# Altium schematic symbol library 74xxTTL.SCHLIB: 343 symbols (part 1 of 3)
Pins are listed as number, name and electrical type; pins without a type are passive.

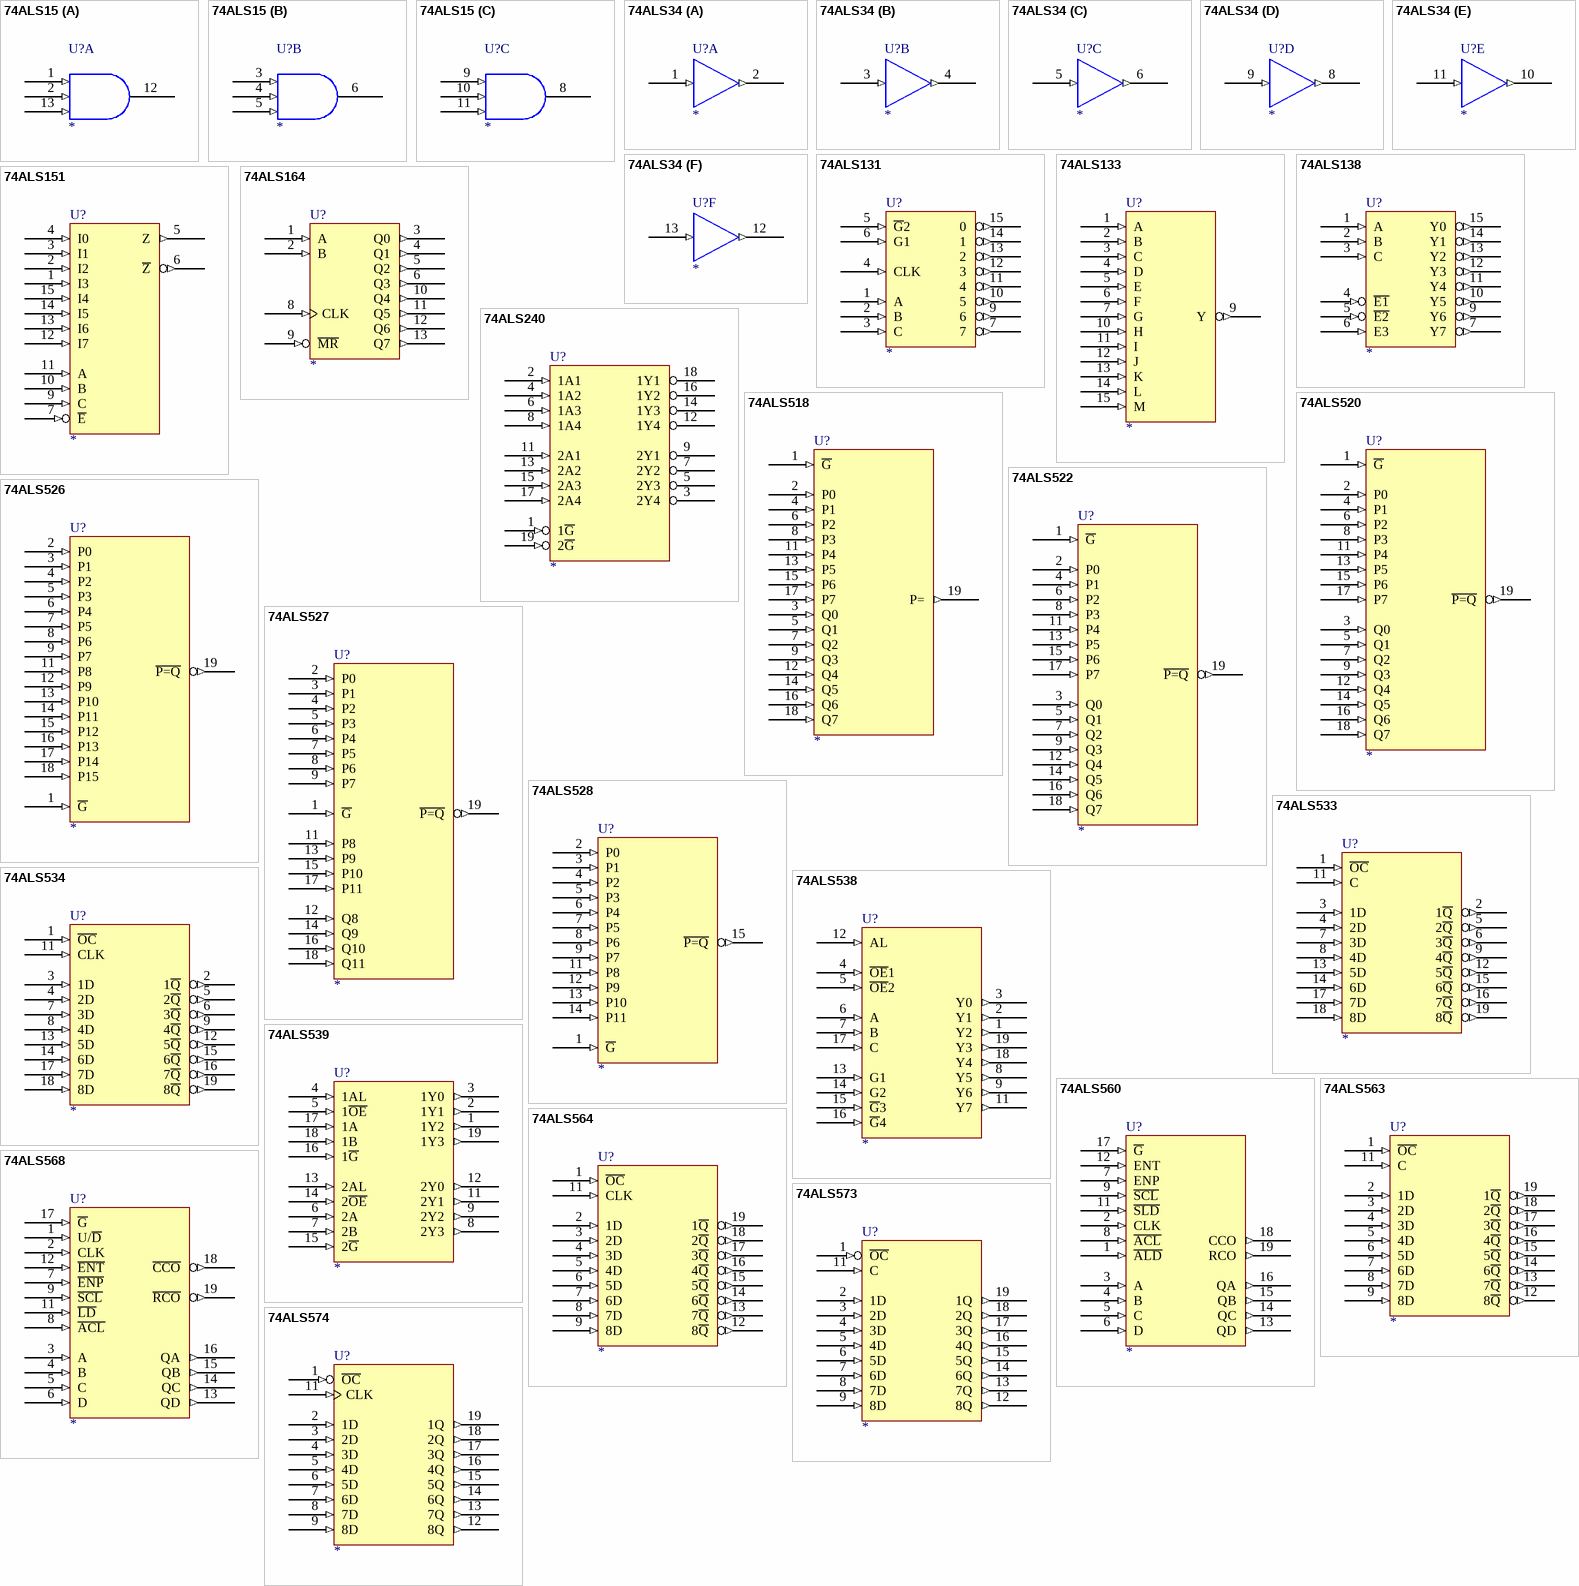
[diagram p0: symbols 74ALS15 to 74ALS574]

## 74ALS15
designator U?
footprint DIP-14
part A pins: 1 (in), 2 (in), 7 GND (power) hidden to GND, 12 (oc), 13 (in), 14 VCC (power) hidden to VCC
part B pins: 3 (in), 4 (in), 5 (in), 6 (oc), 7 GND (power) hidden to GND, 14 VCC (power) hidden to VCC
part C pins: 7 GND (power) hidden to GND, 8 (oc), 9 (in), 10 (in), 11 (in), 14 VCC (power) hidden to VCC

## 74ALS34
designator U?
footprint DIP-14
part A pins: 1 (in), 2 (out), 7 GND (power) hidden to GND, 14 VCC (power) hidden to VCC
part B pins: 3 (in), 4 (out), 7 GND (power) hidden to GND, 14 VCC (power) hidden to VCC
part C pins: 5 (in), 6 (out), 7 GND (power) hidden to GND, 14 VCC (power) hidden to VCC
part D pins: 7 GND (power) hidden to GND, 8 (out), 9 (in), 14 VCC (power) hidden to VCC
part E pins: 7 GND (power) hidden to GND, 10 (out), 11 (in), 14 VCC (power) hidden to VCC
part F pins: 7 GND (power) hidden to GND, 12 (out), 13 (in), 14 VCC (power) hidden to VCC

## 74ALS131
designator U?
footprint DIP-16
pins: 1 A (in), 2 B (in), 3 C (in), 4 CLK (in), 5 ~{G}2 (in), 6 G1 (in), 7 (out), 8 GND (power) hidden to GND, 9 6 (out), 10 5 (out), 11 4 (out), 12 3 (out), 13 2 (out), 14 1 (out), 15 0 (out), 16 VCC (power) hidden to VCC

## 74ALS133
designator U?
footprint DIP-16
pins: 1 A (in), 2 B (in), 3 C (in), 4 D (in), 5 E (in), 6 F (in), 7 G (in), 8 GND (power) hidden to GND, 9 Y (out), 10 H (in), 11 I (in), 12 J (in), 13 K (in), 14 L (in), 15 M (in), 16 VCC (power) hidden to VCC

## 74ALS138
designator U?
footprint DIP-16
pins: 1 A (in), 2 B (in), 3 C (in), 4 ~{E1} (in), 5 ~{E2} (in), 6 E3 (in), 7 Y7 (out), 8 GND (power) hidden to GND, 9 Y6 (out), 10 Y5 (out), 11 Y4 (out), 12 Y3 (out), 13 Y2 (out), 14 Y1 (out), 15 Y0 (out), 16 VCC (power) hidden to VCC

## 74ALS151
designator U?
footprint DIP-16
pins: 1 I3 (in), 2 I2 (in), 3 I1 (in), 4 I0 (in), 5 Z (out), 6 ~{Z} (out), 7 ~{E} (in), 8 GND (power) hidden to GND, 9 C (in), 10 B (in), 11 A (in), 12 I7 (in), 13 I6 (in), 14 I5 (in), 15 I4 (in), 16 VCC (power) hidden to VCC

## 74ALS164
designator U?
footprint DIP-14
pins: 1 A (in), 2 B (in), 3 Q0 (out), 4 Q1 (out), 5 Q2 (out), 6 Q3 (out), 7 GND (power) hidden to GND, 8 CLK (in), 9 ~{MR} (in), 10 Q4 (out), 11 Q5 (out), 12 Q6 (out), 13 Q7 (out), 14 VCC (power) hidden to VCC

## 74ALS240
designator U?
footprint DIP-20
pins: 1 1~{G} (in), 2 1A1 (in), 3 2Y4 (hiz), 4 1A2 (in), 5 2Y3 (hiz), 6 1A3 (in), 7 2Y2 (hiz), 8 1A4 (in), 9 2Y1 (hiz), 10 GND (power) hidden to GND, 11 2A1 (in), 12 1Y4 (hiz), 13 2A2 (in), 14 1Y3 (hiz), 15 2A3 (in), 16 1Y2 (hiz), 17 2A4 (in), 18 1Y1 (hiz), 19 2~{G} (in), 20 VCC (power) hidden to VCC

## 74ALS518
designator U?
footprint DIP-20
pins: 1 ~{G} (in), 2 P0 (in), 3 Q0 (in), 4 P1 (in), 5 Q1 (in), 6 P2 (in), 7 Q2 (in), 8 P3 (in), 9 Q3 (in), 10 GND (power) hidden to GND, 11 P4 (in), 12 Q4 (in), 13 P5 (in), 14 Q5 (in), 15 P6 (in), 16 Q6 (in), 17 P7 (in), 18 Q7 (in), 19 P= (out), 20 VCC (power) hidden to VCC

## 74ALS520
designator U?
footprint DIP-20
pins: 1 ~{G} (in), 2 P0 (in), 3 Q0 (in), 4 P1 (in), 5 Q1 (in), 6 P2 (in), 7 Q2 (in), 8 P3 (in), 9 Q3 (in), 10 GND (power) hidden to GND, 11 P4 (in), 12 Q4 (in), 13 P5 (in), 14 Q5 (in), 15 P6 (in), 16 Q6 (in), 17 P7 (in), 18 Q7 (in), 19 ~{P=Q} (out), 20 VCC (power) hidden to VCC

## 74ALS522
designator U?
footprint DIP-20
pins: 1 ~{G} (in), 2 P0 (in), 3 Q0 (in), 4 P1 (in), 5 Q1 (in), 6 P2 (in), 7 Q2 (in), 8 P3 (in), 9 Q3 (in), 10 GND (power) hidden to GND, 11 P4 (in), 12 Q4 (in), 13 P5 (in), 14 Q5 (in), 15 P6 (in), 16 Q6 (in), 17 P7 (in), 18 Q7 (in), 19 ~{P=Q} (out), 20 VCC (power) hidden to VCC

## 74ALS526
designator U?
footprint DIP-20
pins: 1 ~{G} (in), 2 P0 (in), 3 P1 (in), 4 P2 (in), 5 P3 (in), 6 P4 (in), 7 P5 (in), 8 P6 (in), 9 P7 (in), 10 GND (power) hidden to GND, 11 P8 (in), 12 P9 (in), 13 P10 (in), 14 P11 (in), 15 P12 (in), 16 P13 (in), 17 P14 (in), 18 P15 (in), 19 ~{P=Q} (out), 20 VCC (power) hidden to VCC

## 74ALS527
designator U?
footprint DIP-20
pins: 1 ~{G} (in), 2 P0 (in), 3 P1 (in), 4 P2 (in), 5 P3 (in), 6 P4 (in), 7 P5 (in), 8 P6 (in), 9 P7 (in), 10 GND (power) hidden to GND, 11 P8 (in), 12 Q8 (in), 13 P9 (in), 14 Q9 (in), 15 P10 (in), 16 Q10 (in), 17 P11 (in), 18 Q11 (in), 19 ~{P=Q} (out), 20 VCC (power) hidden to VCC

## 74ALS528
designator U?
footprint DIP-16
pins: 1 ~{G} (in), 2 P0 (in), 3 P1 (in), 4 P2 (in), 5 P3 (in), 6 P4 (in), 7 P5 (in), 8 P6 (in), 8 GND (power) hidden to GND, 9 P7 (in), 11 P8 (in), 12 P9 (in), 13 P10 (in), 14 P11 (in), 15 ~{P=Q} (out), 16 VCC (power) hidden to VCC

## 74ALS533
designator U?
footprint DIP-20
pins: 1 ~{OC} (in), 2 1~{Q} (out), 3 1D (in), 4 2D (in), 5 2~{Q} (out), 6 3~{Q} (out), 7 3D (in), 8 4D (in), 9 4~{Q} (out), 10 GND (power) hidden to GND, 11 C (in), 12 5~{Q} (out), 13 5D (in), 14 6D (in), 15 6~{Q} (out), 16 7~{Q} (out), 17 7D (in), 18 8D (in), 19 8~{Q} (out), 20 VCC (power) hidden to VCC

## 74ALS534
designator U?
footprint DIP-20
pins: 1 ~{OC} (in), 2 1~{Q} (out), 3 1D (in), 4 2D (in), 5 2~{Q} (out), 6 3~{Q} (out), 7 3D (in), 8 4D (in), 9 4~{Q} (out), 10 GND (power) hidden to GND, 11 CLK (in), 12 5~{Q} (out), 13 5D (in), 14 6D (in), 15 6~{Q} (out), 16 7~{Q} (out), 17 7D (in), 18 8D (in), 19 8~{Q} (out), 20 VCC (power) hidden to VCC

## 74ALS538
designator U?
footprint DIP-20
pins: 1 Y2 (out), 2 Y1 (out), 3 Y0 (out), 4 ~{OE}1 (in), 5 ~{OE}2 (in), 6 A (in), 7 B (in), 8 Y5 (out), 9 Y6 (out), 10 GND (power) hidden to GND, 11 Y7 (out), 12 AL (in), 13 G1 (in), 14 G2 (in), 15 ~{G}3 (in), 16 ~{G}4 (in), 17 C (in), 18 Y4 (out), 19 Y3 (out), 20 VCC (power) hidden to VCC

## 74ALS539
designator U?
footprint DIP-20
pins: 1 1Y2 (out), 2 1Y1 (out), 3 1Y0 (out), 4 1AL (in), 5 1~{OE} (in), 6 2A (in), 7 2B (in), 8 2Y3 (out), 9 2Y2 (out), 10 GND (power) hidden to GND, 11 2Y1 (out), 12 2Y0 (out), 13 2AL (in), 14 2~{OE} (in), 15 2~{G} (in), 16 1~{G} (in), 17 1A (in), 18 1B (in), 19 1Y3 (out), 20 VCC (power) hidden to VCC

## 74ALS560
designator U?
footprint DIP-20
pins: 1 ~{ALD} (in), 2 CLK (in), 3 A (in), 4 B (in), 5 C (in), 6 D (in), 7 ENP (in), 8 ~{ACL} (in), 9 ~{SCL} (in), 10 GND (power) hidden to GND, 11 ~{SLD} (in), 12 ENT (in), 13 QD (out), 14 QC (out), 15 QB (out), 16 QA (out), 17 ~{G} (in), 18 CCO (out), 19 RCO (out), 20 GND (power) hidden to GND

## 74ALS563
designator U?
footprint DIP-20
pins: 1 ~{OC} (in), 2 1D (in), 3 2D (in), 4 3D (in), 5 4D (in), 6 5D (in), 7 6D (in), 8 7D (in), 9 8D (in), 10 GND (power) hidden to GND, 11 C (in), 12 8~{Q} (out), 13 7~{Q} (out), 14 6~{Q} (out), 15 5~{Q} (out), 16 4~{Q} (out), 17 3~{Q} (out), 18 2~{Q} (out), 19 1~{Q} (out), 20 VCC (power) hidden to VCC

## 74ALS564
designator U?
footprint DIP-20
pins: 1 ~{OC} (in), 2 1D (in), 3 2D (in), 4 3D (in), 5 4D (in), 6 5D (in), 7 6D (in), 8 7D (in), 9 8D (in), 10 GND (power) hidden to GND, 11 CLK (in), 12 8~{Q} (out), 13 7~{Q} (out), 14 6~{Q} (out), 15 5~{Q} (out), 16 4~{Q} (out), 17 3~{Q} (out), 18 2~{Q} (out), 19 1~{Q} (out), 20 VCC (power) hidden to VCC

## 74ALS568
designator U?
footprint DIP-20
pins: 1 U/~{D} (in), 2 CLK (in), 3 A (in), 4 B (in), 5 C (in), 6 D (in), 7 ~{ENP} (in), 8 ~{ACL} (in), 9 ~{SCL} (in), 10 GND (power) hidden to GND, 11 ~{LD} (in), 12 ~{ENT} (in), 13 QD (out), 14 QC (out), 15 QB (out), 16 QA (out), 17 ~{G} (in), 18 ~{CCO} (out), 19 ~{RCO} (out), 20 VCC (power) hidden to VCC

## 74ALS573
designator U?
footprint DIP-20
pins: 1 ~{OC} (in), 2 1D (in), 3 2D (in), 4 3D (in), 5 4D (in), 6 5D (in), 7 6D (in), 8 7D (in), 9 8D (in), 10 GND (power) hidden to GND, 11 C (in), 12 8Q (out), 13 7Q (out), 14 6Q (out), 15 5Q (out), 16 4Q (out), 17 3Q (out), 18 2Q (out), 19 1Q (out), 20 VCC (power) hidden to VCC

## 74ALS574
designator U?
footprint DIP-20
pins: 1 ~{OC} (in), 2 1D (in), 3 2D (in), 4 3D (in), 5 4D (in), 6 5D (in), 7 6D (in), 8 7D (in), 9 8D (in), 10 GND (power) hidden to GND, 11 CLK (in), 12 8Q (out), 13 7Q (out), 14 6Q (out), 15 5Q (out), 16 4Q (out), 17 3Q (out), 18 2Q (out), 19 1Q (out), 20 VCC (power) hidden to VCC

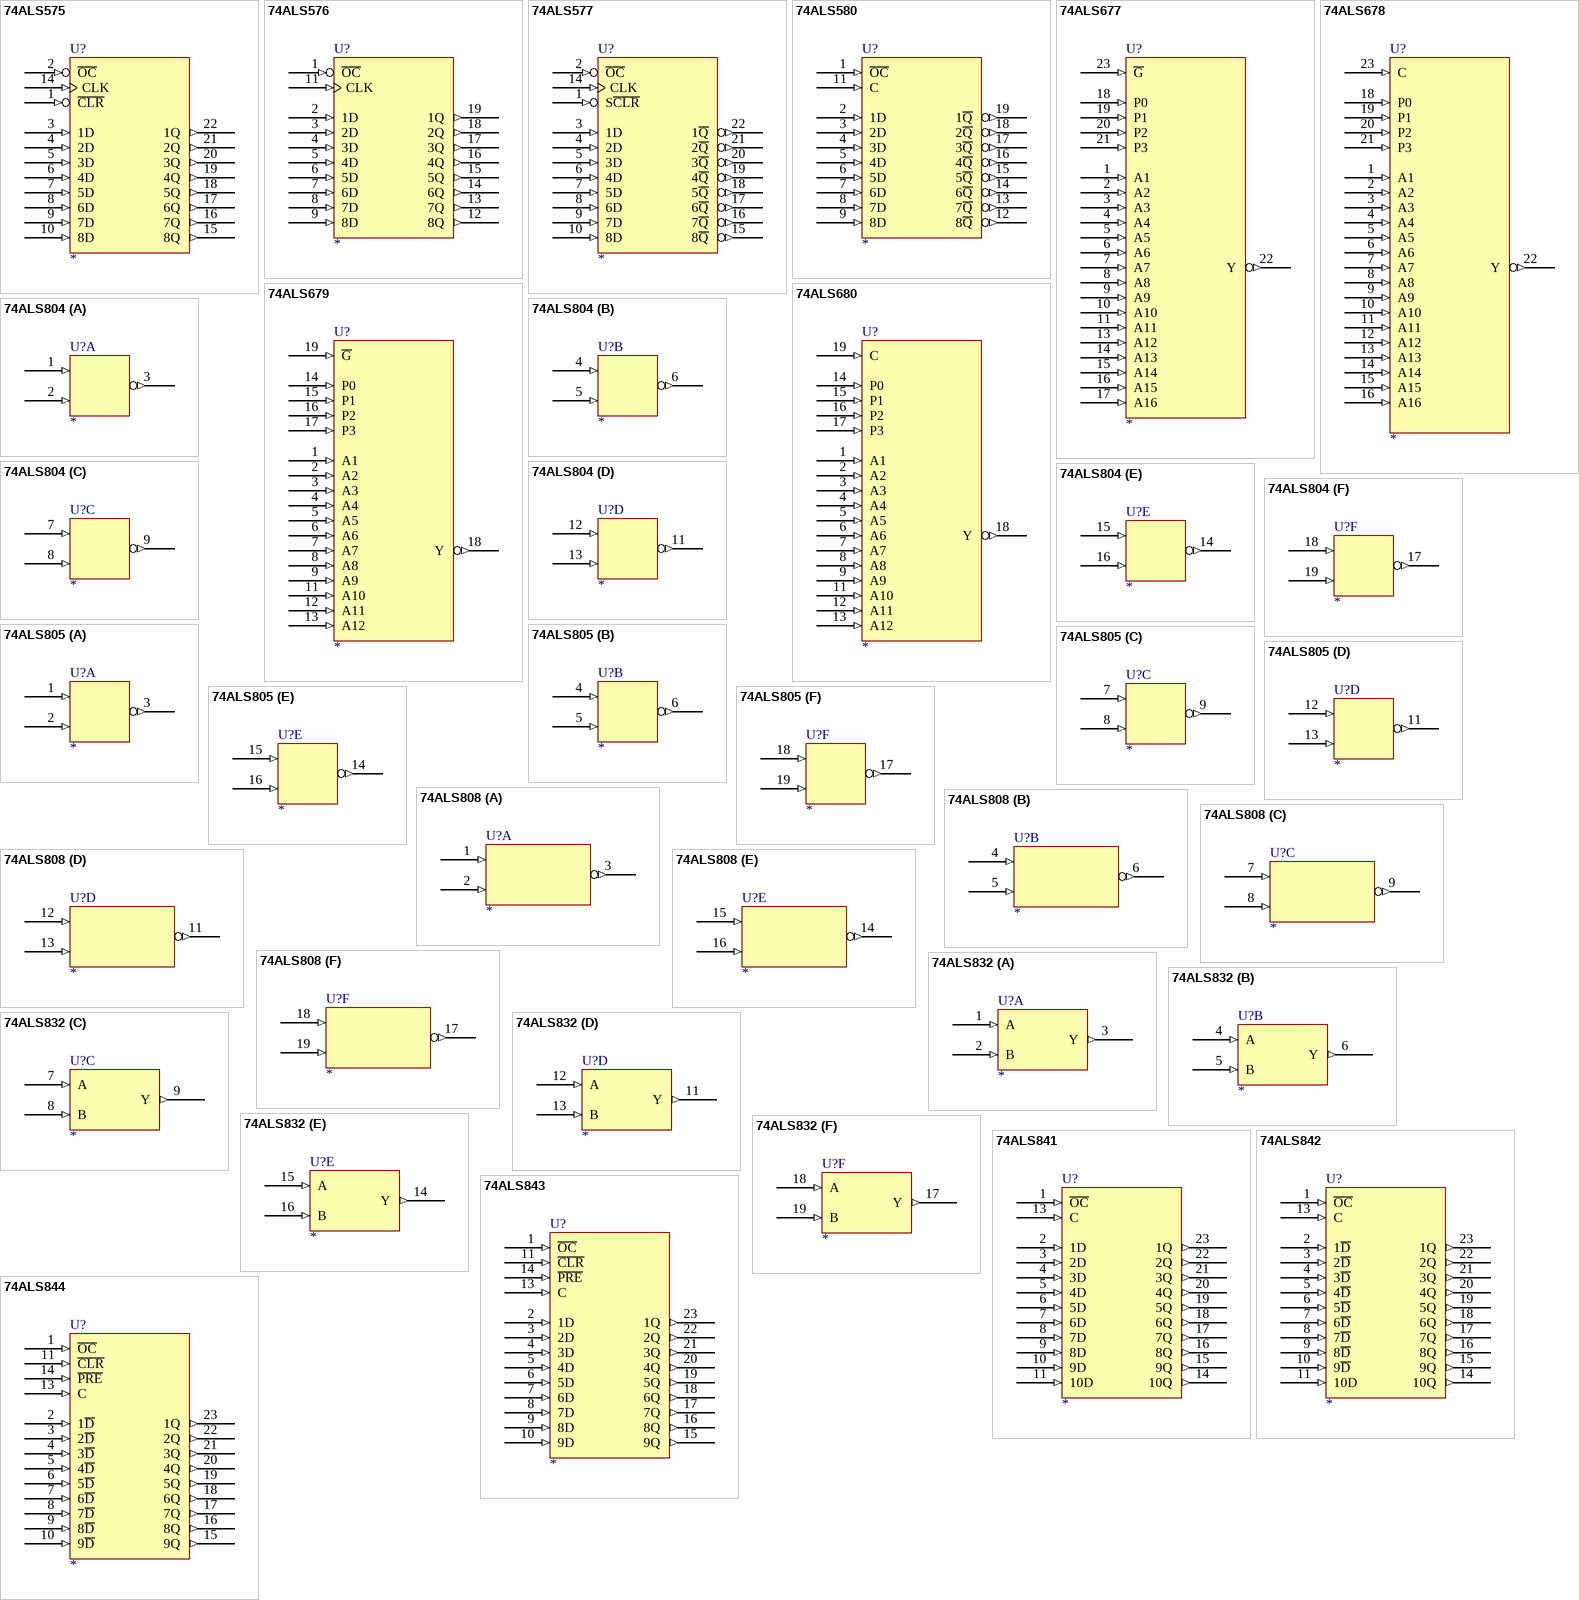
[diagram p1: symbols 74ALS575 to 74ALS844]

## 74ALS575
designator U?
footprint DIP-24
pins: 1 ~{CLR} (in), 2 ~{OC} (in), 3 1D (in), 4 2D (in), 5 3D (in), 6 4D (in), 7 5D (in), 8 6D (in), 9 7D (in), 10 8D (in), 12 GND (power) hidden to GND, 14 CLK (in), 15 8Q (out), 16 7Q (out), 17 6Q (out), 18 5Q (out), 19 4Q (out), 20 3Q (out), 21 2Q (out), 22 1Q (out), 24 VCC (power) hidden to VCC

## 74ALS576
designator U?
footprint DIP-20
pins: 1 ~{OC} (in), 2 1D (in), 3 2D (in), 4 3D (in), 5 4D (in), 6 5D (in), 7 6D (in), 8 7D (in), 9 8D (in), 10 GND (power) hidden to GND, 11 CLK (in), 12 8Q (out), 13 7Q (out), 14 6Q (out), 15 5Q (out), 16 4Q (out), 17 3Q (out), 18 2Q (out), 19 1Q (out), 20 VCC (power) hidden to VCC

## 74ALS577
designator U?
footprint DIP-24
pins: 1 S~{CLR} (in), 2 ~{OC} (in), 3 1D (in), 4 2D (in), 5 3D (in), 6 4D (in), 7 5D (in), 8 6D (in), 9 7D (in), 10 8D (in), 12 GND (power) hidden to GND, 14 CLK (in), 15 8~{Q} (out), 16 7~{Q} (out), 17 6~{Q} (out), 18 5~{Q} (out), 19 4~{Q} (out), 20 3~{Q} (out), 21 2~{Q} (out), 22 1~{Q} (out), 24 VCC (power) hidden to VCC

## 74ALS580
designator U?
footprint DIP-20
pins: 1 ~{OC} (in), 2 1D (in), 3 2D (in), 4 3D (in), 5 4D (in), 6 5D (in), 7 6D (in), 8 7D (in), 9 8D (in), 10 GND (power) hidden to GND, 11 C (in), 12 8~{Q} (out), 13 7~{Q} (out), 14 6~{Q} (out), 15 5~{Q} (out), 16 4~{Q} (out), 17 3~{Q} (out), 18 2~{Q} (out), 19 1~{Q} (out), 20 VCC (power) hidden to VCC

## 74ALS677
designator U?
footprint DIP-24
pins: 1 A1 (in), 2 A2 (in), 3 A3 (in), 4 A4 (in), 5 A5 (in), 6 A6 (in), 7 A7 (in), 8 A8 (in), 9 A9 (in), 10 A10 (in), 11 A11 (in), 12 GND (power) hidden to GND, 13 A12 (in), 14 A13 (in), 15 A14 (in), 16 A15 (in), 17 A16 (in), 18 P0 (in), 19 P1 (in), 20 P2 (in), 21 P3 (in), 22 Y (out), 23 ~{G} (in), 24 VCC (power) hidden to VCC

## 74ALS678
designator U?
footprint DIP-24
pins: 1 A1 (in), 2 A2 (in), 3 A3 (in), 4 A4 (in), 5 A5 (in), 6 A6 (in), 7 A7 (in), 8 A8 (in), 9 A9 (in), 10 A10 (in), 11 A11 (in), 12 A12 (in), 12 GND (power) hidden to GND, 13 A13 (in), 14 A14 (in), 15 A15 (in), 16 A16 (in), 18 P0 (in), 19 P1 (in), 20 P2 (in), 21 P3 (in), 22 Y (out), 23 C (in), 24 VCC (power) hidden to VCC

## 74ALS679
designator U?
footprint DIP-20
pins: 1 A1 (in), 2 A2 (in), 3 A3 (in), 4 A4 (in), 5 A5 (in), 6 A6 (in), 7 A7 (in), 8 A8 (in), 9 A9 (in), 10 GND (power) hidden to GND, 11 A10 (in), 12 A11 (in), 13 A12 (in), 14 P0 (in), 15 P1 (in), 16 P2 (in), 17 P3 (in), 18 Y (out), 19 ~{G} (in), 20 VCC (power) hidden to VCC

## 74ALS680
designator U?
footprint DIP-20
pins: 1 A1 (in), 2 A2 (in), 3 A3 (in), 4 A4 (in), 5 A5 (in), 6 A6 (in), 7 A7 (in), 8 A8 (in), 9 A9 (in), 10 GND (power) hidden to GND, 11 A10 (in), 12 A11 (in), 13 A12 (in), 14 P0 (in), 15 P1 (in), 16 P2 (in), 17 P3 (in), 18 Y (out), 19 C (in), 20 VCC (power) hidden to VCC

## 74ALS804
designator U?
footprint DIP-20
part A pins: 1 (in), 2 (in), 3 (out), 10 GND (power) hidden to GND, 20 VCC (power) hidden to VCC
part B pins: 4 (in), 5 (in), 6 (out), 10 GND (power) hidden to GND, 20 VCC (power) hidden to VCC
part C pins: 7 (in), 8 (in), 9 (out), 10 GND (power) hidden to GND, 20 VCC (power) hidden to VCC
part D pins: 10 GND (power) hidden to GND, 11 (out), 12 (in), 13 (in), 20 VCC (power) hidden to VCC
part E pins: 10 GND (power) hidden to GND, 14 (out), 15 (in), 16 (in), 20 VCC (power) hidden to VCC
part F pins: 10 GND (power) hidden to GND, 17 (out), 18 (in), 19 (in), 20 VCC (power) hidden to VCC

## 74ALS805
designator U?
footprint DIP-20
part A pins: 1 (in), 2 (in), 3 (out), 10 GND (power) hidden to GND, 20 VCC (power) hidden to VCC
part B pins: 4 (in), 5 (in), 6 (out), 10 GND (power) hidden to GND, 20 VCC (power) hidden to VCC
part C pins: 7 (in), 8 (in), 9 (out), 10 GND (power) hidden to GND, 20 VCC (power) hidden to VCC
part D pins: 10 GND (power) hidden to GND, 11 (out), 12 (in), 13 (in), 20 VCC (power) hidden to VCC
part E pins: 10 GND (power) hidden to GND, 14 (out), 15 (in), 16 (in), 20 VCC (power) hidden to VCC
part F pins: 10 GND (power) hidden to GND, 17 (out), 18 (in), 19 (in), 20 VCC (power) hidden to VCC

## 74ALS808
designator U?
footprint DIP-20
part A pins: 1 (in), 2 (in), 3 (out), 10 GND (power) hidden to GND, 20 VCC (power) hidden to VCC
part B pins: 4 (in), 5 (in), 6 (out), 10 GND (power) hidden to GND, 20 VCC (power) hidden to VCC
part C pins: 7 (in), 8 (in), 9 (out), 10 GND (power) hidden to GND, 20 VCC (power) hidden to VCC
part D pins: 10 GND (power) hidden to GND, 11 (out), 12 (in), 13 (in), 20 VCC (power) hidden to VCC
part E pins: 10 GND (power) hidden to GND, 14 (out), 15 (in), 16 (in), 20 VCC (power) hidden to VCC
part F pins: 10 GND (power) hidden to GND, 17 (out), 18 (in), 19 (in), 20 VCC (power) hidden to VCC

## 74ALS832
designator U?
footprint DIP-20
part A pins: 1 A (in), 2 B (in), 3 Y (out), 10 GND (power) hidden to GND, 20 VCC (power) hidden to VCC
part B pins: 4 A (in), 5 B (in), 6 Y (out), 10 GND (power) hidden to GND, 20 VCC (power) hidden to VCC
part C pins: 7 A (in), 8 B (in), 9 Y (out), 10 GND (power) hidden to GND, 20 VCC (power) hidden to VCC
part D pins: 10 GND (power) hidden to GND, 11 Y (out), 12 A (in), 13 B (in), 20 VCC (power) hidden to VCC
part E pins: 10 GND (power) hidden to GND, 14 Y (out), 15 A (in), 16 B (in), 20 VCC (power) hidden to VCC
part F pins: 10 GND (power) hidden to GND, 17 Y (out), 18 A (in), 19 B (in), 20 VCC (power) hidden to VCC

## 74ALS841
designator U?
footprint DIP-24
pins: 1 ~{OC} (in), 2 1D (in), 3 2D (in), 4 3D (in), 5 4D (in), 6 5D (in), 7 6D (in), 8 7D (in), 9 8D (in), 10 9D (in), 11 10D (in), 12 GND (power) hidden to GND, 13 C (in), 14 10Q (out), 15 9Q (out), 16 8Q (out), 17 7Q (out), 18 6Q (out), 19 5Q (out), 20 4Q (out), 21 3Q (out), 22 2Q (out), 23 1Q (out), 24 VCC (power) hidden to VCC

## 74ALS842
designator U?
footprint DIP-24
pins: 1 ~{OC} (in), 2 1~{D} (in), 3 2~{D} (in), 4 3~{D} (in), 5 4~{D} (in), 6 5~{D} (in), 7 6~{D} (in), 8 7~{D} (in), 9 8~{D} (in), 10 9~{D} (in), 11 10D (in), 12 GND (power) hidden to GND, 13 C (in), 14 10Q (out), 15 9Q (out), 16 8Q (out), 17 7Q (out), 18 6Q (out), 19 5Q (out), 20 4Q (out), 21 3Q (out), 22 2Q (out), 23 1Q (out), 24 VCC (power) hidden to VCC

## 74ALS843
designator U?
footprint DIP-24
pins: 1 ~{OC} (in), 2 1D (in), 3 2D (in), 4 3D (in), 5 4D (in), 6 5D (in), 7 6D (in), 8 7D (in), 9 8D (in), 10 9D (in), 11 ~{CLR} (in), 12 GND (power) hidden to GND, 13 C (in), 14 ~{PRE} (in), 15 9Q (out), 16 8Q (out), 17 7Q (out), 18 6Q (out), 19 5Q (out), 20 4Q (out), 21 3Q (out), 22 2Q (out), 23 1Q (out), 24 VCC (power) hidden to VCC

## 74ALS844
designator U?
footprint DIP-24
pins: 1 ~{OC} (in), 2 1~{D} (in), 3 2~{D} (in), 4 3~{D} (in), 5 4~{D} (in), 6 5~{D} (in), 7 6~{D} (in), 8 7~{D} (in), 9 8~{D} (in), 10 9~{D} (in), 11 ~{CLR} (in), 12 GND (power) hidden to GND, 13 C (in), 14 ~{PRE} (in), 15 9Q (out), 16 8Q (out), 17 7Q (out), 18 6Q (out), 19 5Q (out), 20 4Q (out), 21 3Q (out), 22 2Q (out), 23 1Q (out), 24 VCC (power) hidden to VCC

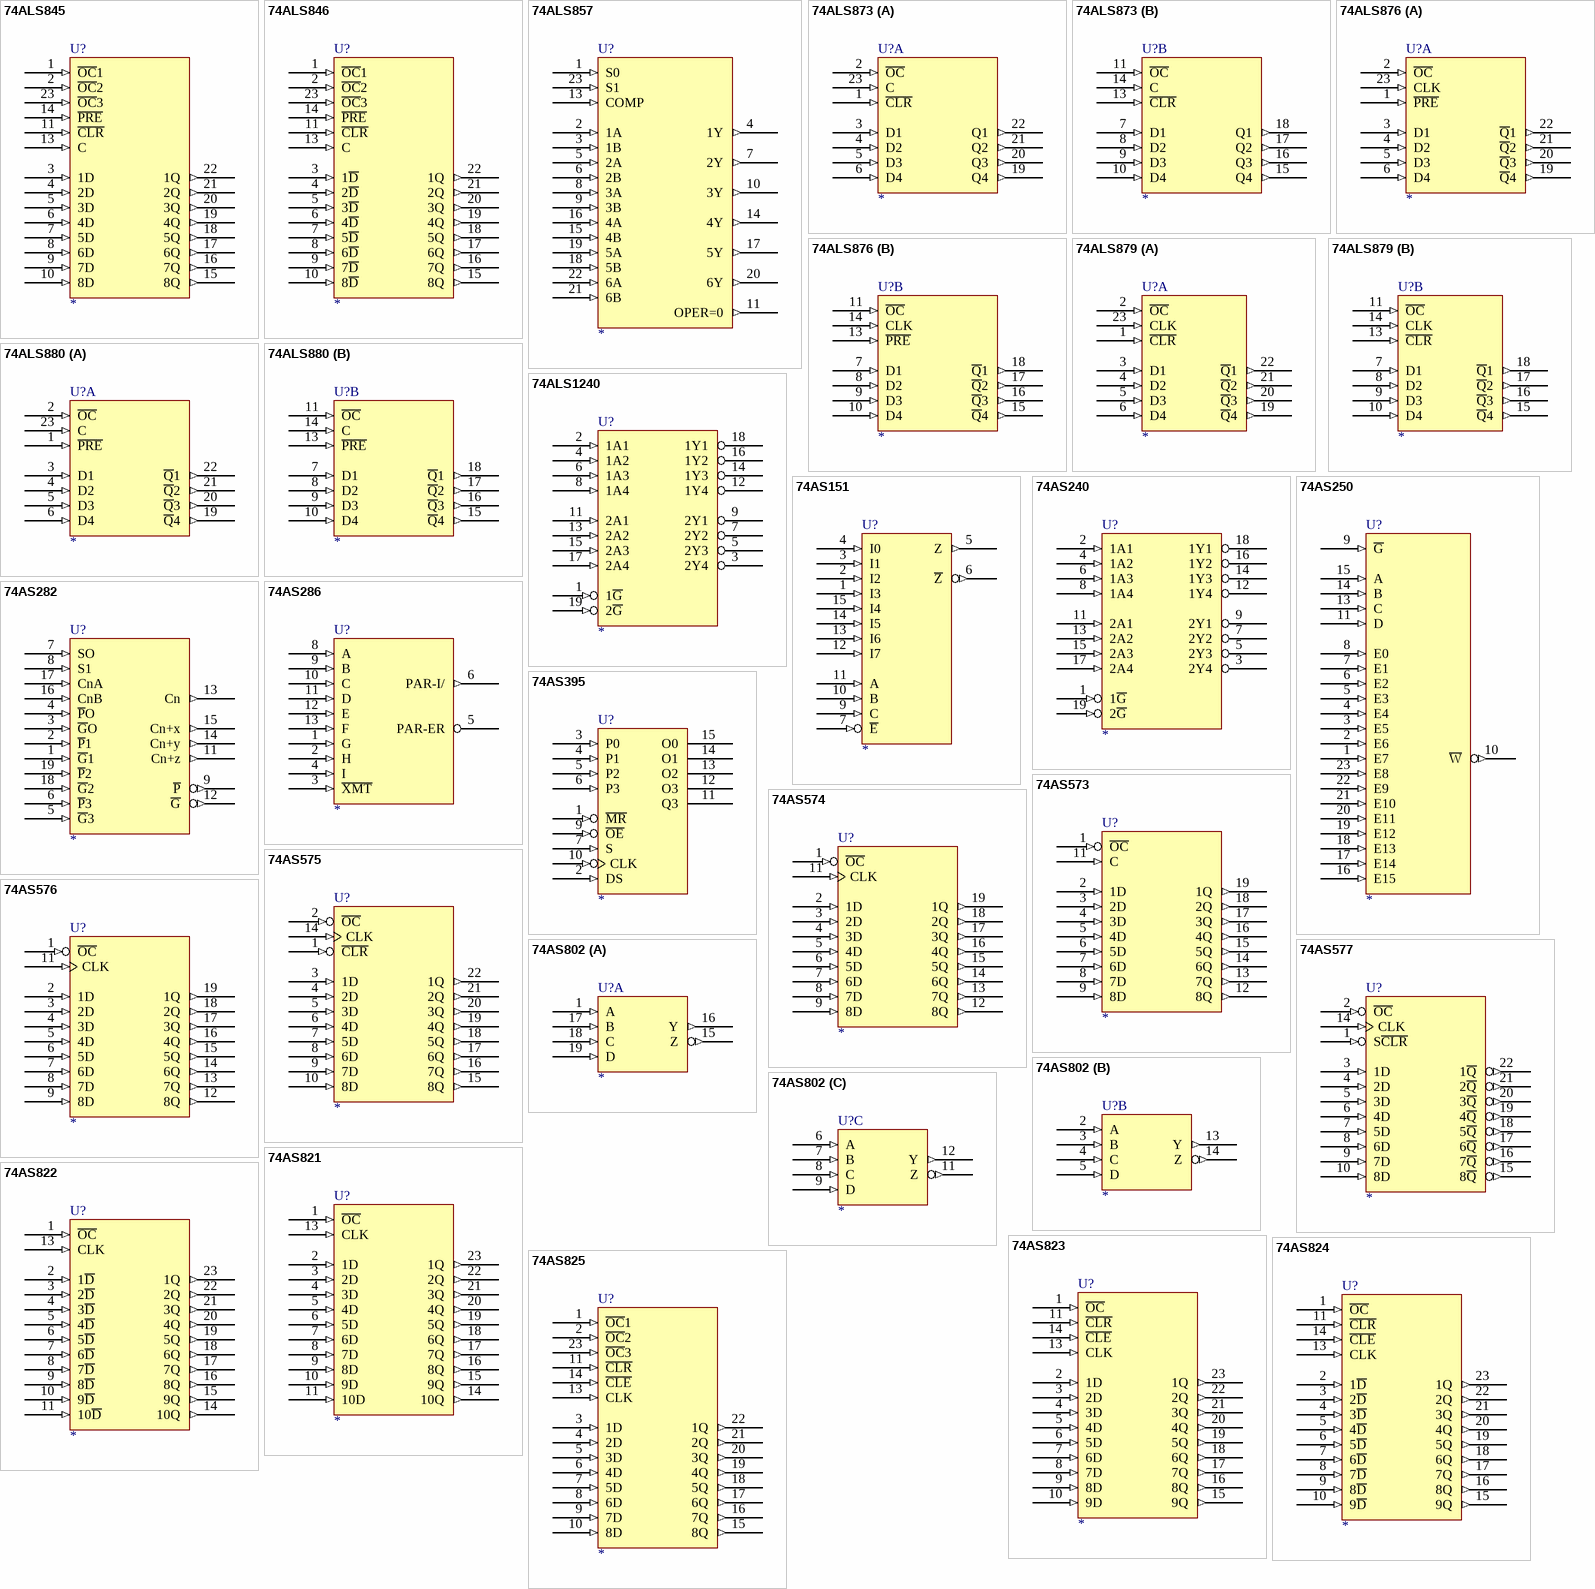
[diagram p2: symbols 74ALS845 to 74AS825]

## 74ALS845
designator U?
footprint DIP-24
pins: 1 ~{OC}1 (in), 2 ~{OC}2 (in), 3 1D (in), 4 2D (in), 5 3D (in), 6 4D (in), 7 5D (in), 8 6D (in), 9 7D (in), 10 8D (in), 11 ~{CLR} (in), 12 GND (power) hidden to GND, 13 C (in), 14 ~{PRE} (in), 15 8Q (out), 16 7Q (out), 17 6Q (out), 18 5Q (out), 19 4Q (out), 20 3Q (out), 21 2Q (out), 22 1Q (out), 23 ~{OC}3 (in), 24 VCC (power) hidden to VCC

## 74ALS846
designator U?
footprint DIP-24
pins: 1 ~{OC}1 (in), 2 ~{OC}2 (in), 3 1~{D} (in), 4 2~{D} (in), 5 3~{D} (in), 6 4~{D} (in), 7 5~{D} (in), 8 6~{D} (in), 9 7~{D} (in), 10 8~{D} (in), 11 ~{CLR} (in), 12 GND (power) hidden to GND, 13 C (in), 14 ~{PRE} (in), 15 8Q (out), 16 7Q (out), 17 6Q (out), 18 5Q (out), 19 4Q (out), 20 3Q (out), 21 2Q (out), 22 1Q (out), 23 ~{OC}3 (in), 24 VCC (power) hidden to VCC

## 74ALS857
designator U?
footprint DIP-24
pins: 1 S0 (in), 2 1A (in), 3 1B (in), 4 1Y (out), 5 2A (in), 6 2B (in), 7 2Y (out), 8 3A (in), 9 3B (in), 10 3Y (out), 11 OPER=0 (out), 12 GND (power) hidden to GND, 13 COMP (in), 14 4Y (out), 15 4B (in), 16 4A (in), 17 5Y (out), 18 5B (in), 19 5A (in), 20 6Y (out), 21 6B (in), 22 6A (in), 23 S1 (in), 24 VCC (power) hidden to VCC

## 74ALS873
designator U?
footprint DIP-24
part A pins: 1 ~{CLR} (in), 2 ~{OC} (in), 3 D1 (in), 4 D2 (in), 5 D3 (in), 6 D4 (in), 12 GND (power) hidden to GND, 19 Q4 (out), 20 Q3 (out), 21 Q2 (out), 22 Q1 (out), 23 C (in), 24 VCC (power) hidden to VCC
part B pins: 7 D1 (in), 8 D2 (in), 9 D3 (in), 10 D4 (in), 11 ~{OC} (in), 12 GND (power) hidden to GND, 13 ~{CLR} (in), 14 C (in), 15 Q4 (out), 16 Q3 (out), 17 Q2 (out), 18 Q1 (out), 24 VCC (power) hidden to VCC

## 74ALS876
designator U?
footprint DIP-24
part A pins: 1 ~{PRE} (in), 2 ~{OC} (in), 3 D1 (in), 4 D2 (in), 5 D3 (in), 6 D4 (in), 12 GND (power) hidden to GND, 19 ~{Q}4 (out), 20 ~{Q}3 (out), 21 ~{Q}2 (out), 22 ~{Q}1 (out), 23 CLK (in), 24 VCC (power) hidden to VCC
part B pins: 7 D1 (in), 8 D2 (in), 9 D3 (in), 10 D4 (in), 11 ~{OC} (in), 12 GND (power) hidden to GND, 13 ~{PRE} (in), 14 CLK (in), 15 ~{Q}4 (out), 16 ~{Q}3 (out), 17 ~{Q}2 (out), 18 ~{Q}1 (out), 24 VCC (power) hidden to VCC

## 74ALS879
designator U?
footprint DIP-24
part A pins: 1 ~{CLR} (in), 2 ~{OC} (in), 3 D1 (in), 4 D2 (in), 5 D3 (in), 6 D4 (in), 12 GND (power) hidden to GND, 19 ~{Q}4 (out), 20 ~{Q}3 (out), 21 ~{Q}2 (out), 22 ~{Q}1 (out), 23 CLK (in), 24 VCC (power) hidden to VCC
part B pins: 7 D1 (in), 8 D2 (in), 9 D3 (in), 10 D4 (in), 11 ~{OC} (in), 12 GND (power) hidden to GND, 13 ~{CLR} (in), 14 CLK (in), 15 ~{Q}4 (out), 16 ~{Q}3 (out), 17 ~{Q}2 (out), 18 ~{Q}1 (out), 24 VCC (power) hidden to VCC

## 74ALS880
designator U?
footprint DIP-24
part A pins: 1 ~{PRE} (in), 2 ~{OC} (in), 3 D1 (in), 4 D2 (in), 5 D3 (in), 6 D4 (in), 12 GND (power) hidden to GND, 19 ~{Q}4 (out), 20 ~{Q}3 (out), 21 ~{Q}2 (out), 22 ~{Q}1 (out), 23 C (in), 24 VCC (power) hidden to VCC
part B pins: 7 D1 (in), 8 D2 (in), 9 D3 (in), 10 D4 (in), 11 ~{OC} (in), 12 GND (power) hidden to GND, 13 ~{PRE} (in), 14 C (in), 15 ~{Q}4 (out), 16 ~{Q}3 (out), 17 ~{Q}2 (out), 18 ~{Q}1 (out), 24 VCC (power) hidden to VCC

## 74ALS1240
designator U?
footprint DIP-20
pins: 1 1~{G} (in), 2 1A1 (in), 3 2Y4 (hiz), 4 1A2 (in), 5 2Y3 (hiz), 6 1A3 (in), 7 2Y2 (hiz), 8 1A4 (in), 9 2Y1 (hiz), 10 GND (power) hidden to GND, 11 2A1 (in), 12 1Y4 (hiz), 13 2A2 (in), 14 1Y3 (hiz), 15 2A3 (in), 16 1Y2 (hiz), 17 2A4 (in), 18 1Y1 (hiz), 19 2~{G} (in), 20 VCC (power) hidden to VCC

## 74AS151
designator U?
footprint DIP-16
pins: 1 I3 (in), 2 I2 (in), 3 I1 (in), 4 I0 (in), 5 Z (out), 6 ~{Z} (out), 7 ~{E} (in), 8 GND (power) hidden to GND, 9 C (in), 10 B (in), 11 A (in), 12 I7 (in), 13 I6 (in), 14 I5 (in), 15 I4 (in), 16 VCC (power) hidden to VCC

## 74AS240
designator U?
footprint DIP-20
pins: 1 1~{G} (in), 2 1A1 (in), 3 2Y4 (hiz), 4 1A2 (in), 5 2Y3 (hiz), 6 1A3 (in), 7 2Y2 (hiz), 8 1A4 (in), 9 2Y1 (hiz), 10 GND (power) hidden to GND, 11 2A1 (in), 12 1Y4 (hiz), 13 2A2 (in), 14 1Y3 (hiz), 15 2A3 (in), 16 1Y2 (hiz), 17 2A4 (in), 18 1Y1 (hiz), 19 2~{G} (in), 20 VCC (power) hidden to VCC

## 74AS250
designator U?
footprint DIP-24
pins: 1 E7 (in), 2 E6 (in), 3 E5 (in), 4 E4 (in), 5 E3 (in), 6 E2 (in), 7 E1 (in), 8 E0 (in), 9 ~{G} (in), 10 ~{W} (out), 11 D (in), 12 GND (power) hidden to GND, 13 C (in), 14 B (in), 15 A (in), 16 E15 (in), 17 E14 (in), 18 E13 (in), 19 E12 (in), 20 E11 (in), 21 E10 (in), 22 E9 (in), 23 E8 (in), 24 VCC (power) hidden to VCC

## 74AS282
designator U?
footprint DIP-20
pins: 1 ~{G}1 (in), 2 ~{P}1 (in), 3 ~{G}O (in), 4 ~{P}O (in), 5 ~{G}3 (in), 6 ~{P}3 (in), 7 SO (in), 8 S1 (in), 9 ~{P} (out), 10 GND (power) hidden to GND, 11 Cn+z (out), 12 ~{G} (out), 13 Cn (out), 14 Cn+y (out), 15 Cn+x (out), 16 CnB (in), 17 CnA (in), 18 ~{G}2 (in), 19 ~{P}2 (in), 20 VCC (power) hidden to VCC

## 74AS286
designator U?
footprint DIP-14
pins: 1 G (in), 2 H (in), 3 ~{XMT} (in), 4 I (in), 5 PAR-ER, 6 PAR-I/ (out), 7 GND (power) hidden to GND, 8 A (in), 9 B (in), 10 C (in), 11 D (in), 12 E (in), 13 F (in), 14 VCC (power) hidden to VCC

## 74AS395
designator U?
footprint DIP-16
pins: 1 ~{MR} (in), 2 DS (in), 3 P0 (in), 4 P1 (in), 5 P2 (in), 6 P3 (in), 7 S (in), 8 GND (power) hidden to GND, 9 ~{OE} (in), 10 CLK (in), 11 Q3 (hiz), 12 O3 (hiz), 13 O2 (hiz), 14 O1 (hiz), 15 O0 (hiz), 16 VCC (power) hidden to VCC

## 74AS573
designator U?
footprint DIP-20
pins: 1 ~{OC} (in), 2 1D (in), 3 2D (in), 4 3D (in), 5 4D (in), 6 5D (in), 7 6D (in), 8 7D (in), 9 8D (in), 10 GND (power) hidden to GND, 11 C (in), 12 8Q (out), 13 7Q (out), 14 6Q (out), 15 5Q (out), 16 4Q (out), 17 3Q (out), 18 2Q (out), 19 1Q (out), 20 VCC (power) hidden to VCC

## 74AS574
designator U?
footprint DIP-20
pins: 1 ~{OC} (in), 2 1D (in), 3 2D (in), 4 3D (in), 5 4D (in), 6 5D (in), 7 6D (in), 8 7D (in), 9 8D (in), 10 GND (power) hidden to GND, 11 CLK (in), 12 8Q (out), 13 7Q (out), 14 6Q (out), 15 5Q (out), 16 4Q (out), 17 3Q (out), 18 2Q (out), 19 1Q (out), 20 VCC (power) hidden to VCC

## 74AS575
designator U?
footprint DIP-24
pins: 1 ~{CLR} (in), 2 ~{OC} (in), 3 1D (in), 4 2D (in), 5 3D (in), 6 4D (in), 7 5D (in), 8 6D (in), 9 7D (in), 10 8D (in), 12 GND (power) hidden to GND, 14 CLK (in), 15 8Q (out), 16 7Q (out), 17 6Q (out), 18 5Q (out), 19 4Q (out), 20 3Q (out), 21 2Q (out), 22 1Q (out), 24 VCC (power) hidden to VCC

## 74AS576
designator U?
footprint DIP-20
pins: 1 ~{OC} (in), 2 1D (in), 3 2D (in), 4 3D (in), 5 4D (in), 6 5D (in), 7 6D (in), 8 7D (in), 9 8D (in), 10 GND (power) hidden to GND, 11 CLK (in), 12 8Q (out), 13 7Q (out), 14 6Q (out), 15 5Q (out), 16 4Q (out), 17 3Q (out), 18 2Q (out), 19 1Q (out), 20 VCC (power) hidden to VCC

## 74AS577
designator U?
footprint DIP-24
pins: 1 S~{CLR} (in), 2 ~{OC} (in), 3 1D (in), 4 2D (in), 5 3D (in), 6 4D (in), 7 5D (in), 8 6D (in), 9 7D (in), 10 8D (in), 12 GND (power) hidden to GND, 14 CLK (in), 15 8~{Q} (out), 16 7~{Q} (out), 17 6~{Q} (out), 18 5~{Q} (out), 19 4~{Q} (out), 20 3~{Q} (out), 21 2~{Q} (out), 22 1~{Q} (out), 24 VCC (power) hidden to VCC

## 74AS802
designator U?
footprint DIP-20
part A pins: 1 A (in), 10 GND (power) hidden to GND, 15 Z (out), 16 Y (out), 17 B (in), 18 C (in), 19 D (in), 20 VCC (power) hidden to VCC
part B pins: 2 A (in), 3 B (in), 4 C (in), 5 D (in), 10 GND (power) hidden to GND, 13 Y (out), 14 Z (out), 20 VCC (power) hidden to VCC
part C pins: 6 A (in), 7 B (in), 8 C (in), 9 D (in), 10 GND (power) hidden to GND, 11 Z (out), 12 Y (out), 20 VCC (power) hidden to VCC

## 74AS821
designator U?
footprint DIP-24
pins: 1 ~{OC} (in), 2 1D (in), 3 2D (in), 4 3D (in), 5 4D (in), 6 5D (in), 7 6D (in), 8 7D (in), 9 8D (in), 10 9D (in), 11 10D (in), 12 GND (power) hidden to GND, 13 CLK (in), 14 10Q (out), 15 9Q (out), 16 8Q (out), 17 7Q (out), 18 6Q (out), 19 5Q (out), 20 4Q (out), 21 3Q (out), 22 2Q (out), 23 1Q (out), 24 VCC (power) hidden to VCC

## 74AS822
designator U?
footprint DIP-24
pins: 1 ~{OC} (in), 2 1~{D} (in), 3 2~{D} (in), 4 3~{D} (in), 5 4~{D} (in), 6 5~{D} (in), 7 6~{D} (in), 8 7~{D} (in), 9 8~{D} (in), 10 9~{D} (in), 11 10~{D} (in), 12 GND (power) hidden to GND, 13 CLK (in), 14 10Q (out), 15 9Q (out), 16 8Q (out), 17 7Q (out), 18 6Q (out), 19 5Q (out), 20 4Q (out), 21 3Q (out), 22 2Q (out), 23 1Q (out), 24 VCC (power) hidden to VCC

## 74AS823
designator U?
footprint DIP-24
pins: 1 ~{OC} (in), 2 1D (in), 3 2D (in), 4 3D (in), 5 4D (in), 6 5D (in), 7 6D (in), 8 7D (in), 9 8D (in), 10 9D (in), 11 ~{CLR} (in), 12 GND (power) hidden to GND, 13 CLK (in), 14 ~{CLE} (in), 15 9Q (out), 16 8Q (out), 17 7Q (out), 18 6Q (out), 19 5Q (out), 20 4Q (out), 21 3Q (out), 22 2Q (out), 23 1Q (out), 24 VCC (power) hidden to VCC

## 74AS824
designator U?
footprint DIP-24
pins: 1 ~{OC} (in), 2 1~{D} (in), 3 2~{D} (in), 4 3~{D} (in), 5 4~{D} (in), 6 5~{D} (in), 7 6~{D} (in), 8 7~{D} (in), 9 8~{D} (in), 10 9~{D} (in), 11 ~{CLR} (in), 12 GND (power) hidden to GND, 13 CLK (in), 14 ~{CLE} (in), 15 9Q (out), 16 8Q (out), 17 7Q (out), 18 6Q (out), 19 5Q (out), 20 4Q (out), 21 3Q (out), 22 2Q (out), 23 1Q (out), 24 VCC (power) hidden to VCC

## 74AS825
designator U?
footprint DIP-24
pins: 1 ~{OC}1 (in), 2 ~{OC}2 (in), 3 1D (in), 4 2D (in), 5 3D (in), 6 4D (in), 7 5D (in), 8 6D (in), 9 7D (in), 10 8D (in), 11 ~{CLR} (in), 12 GND (power) hidden to GND, 13 CLK (in), 14 ~{CLE} (in), 15 8Q (out), 16 7Q (out), 17 6Q (out), 18 5Q (out), 19 4Q (out), 20 3Q (out), 21 2Q (out), 22 1Q (out), 23 ~{OC}3 (in), 24 VCC (power) hidden to VCC

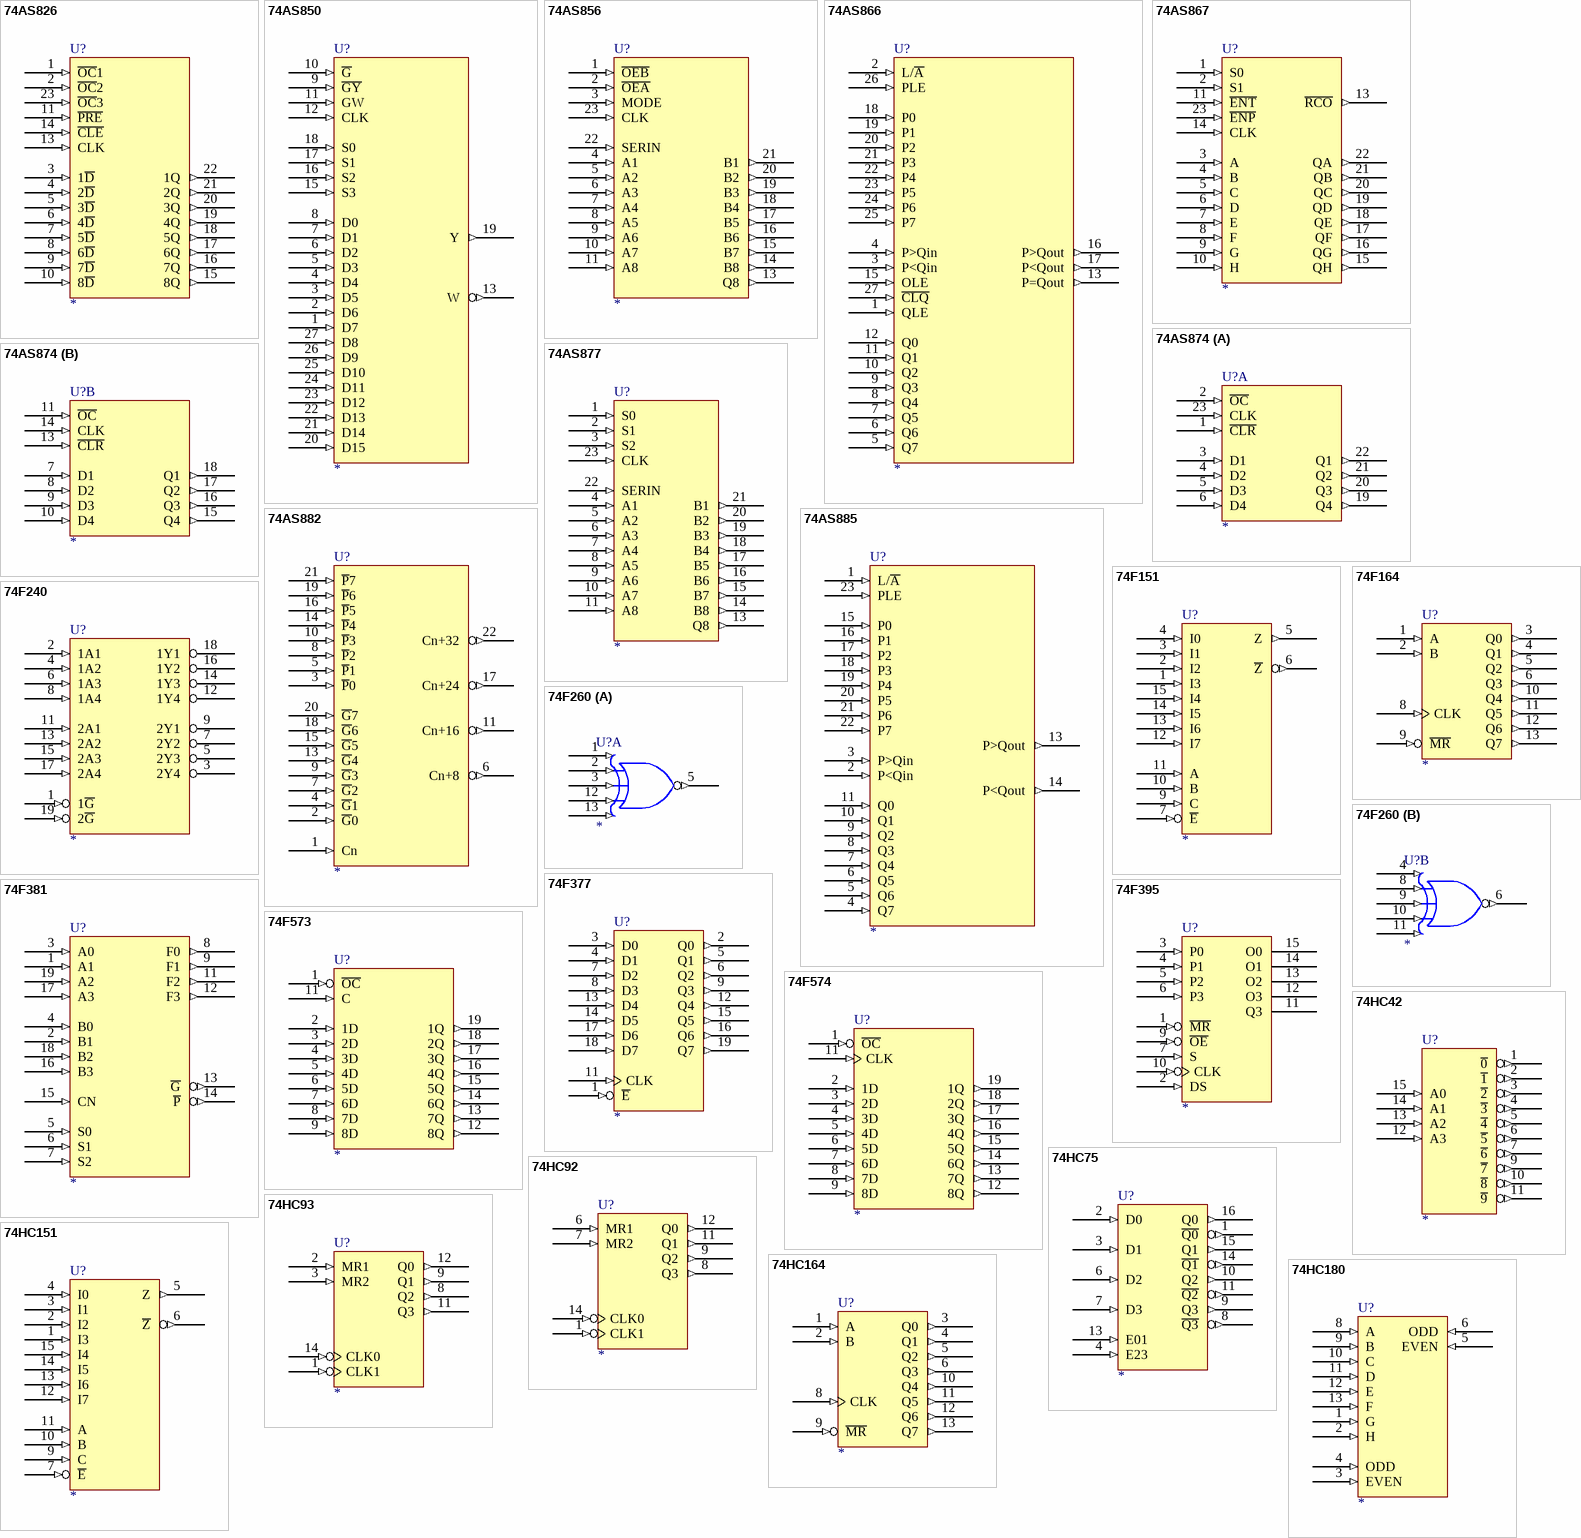
[diagram p3: symbols 74AS826 to 74HC180]

## 74AS826
designator U?
footprint DIP-24
pins: 1 ~{OC}1 (in), 2 ~{OC}2 (in), 3 1~{D} (in), 4 2~{D} (in), 5 3~{D} (in), 6 4~{D} (in), 7 5~{D} (in), 8 6~{D} (in), 9 7~{D} (in), 10 8~{D} (in), 11 ~{PRE} (in), 12 GND (power) hidden to GND, 13 CLK (in), 14 ~{CLE} (in), 15 8Q (out), 16 7Q (out), 17 6Q (out), 18 5Q (out), 19 4Q (out), 20 3Q (out), 21 2Q (out), 22 1Q (out), 23 ~{OC}3 (in), 24 VCC (power) hidden to VCC

## 74AS850
designator U?
footprint DIP-28
pins: 1 D7 (in), 2 D6 (in), 3 D5 (in), 4 D4 (in), 5 D3 (in), 6 D2 (in), 7 D1 (in), 8 D0 (in), 9 ~{GY} (in), 10 ~{G} (in), 11 GW (in), 12 CLK (in), 13 W (out), 14 GND (power) hidden to GND, 15 S3 (in), 16 S2 (in), 17 S1 (in), 18 S0 (in), 19 Y (out), 20 D15 (in), 21 D14 (in), 22 D13 (in), 23 D12 (in), 24 D11 (in), 25 D10 (in), 26 D9 (in), 27 D8 (in), 28 VCC (power) hidden to VCC

## 74AS856
designator U?
footprint DIP-24
pins: 1 ~{OEB} (in), 2 ~{OEA} (in), 3 MODE (in), 4 A1 (in), 5 A2 (in), 6 A3 (in), 7 A4 (in), 8 A5 (in), 9 A6 (in), 10 A7 (in), 11 A8 (in), 12 GND (power) hidden to GND, 13 Q8 (out), 14 B8 (out), 15 B7 (out), 16 B6 (out), 17 B5 (out), 18 B4 (out), 19 B3 (out), 20 B2 (out), 21 B1 (out), 22 SERIN (in), 23 CLK (in), 24 VCC (power) hidden to VCC

## 74AS866
designator U?
footprint DIP-28
pins: 1 QLE (in), 2 L/~{A} (in), 3 P<Qin (in), 4 P>Qin (in), 5 Q7 (in), 6 Q6 (in), 7 Q5 (in), 8 Q4 (in), 9 Q3 (in), 10 Q2 (in), 11 Q1 (in), 12 Q0 (in), 13 P=Qout (out), 14 GND (power) hidden to GND, 15 OLE (in), 16 P>Qout (out), 17 P<Qout (out), 18 P0 (in), 19 P1 (in), 20 P2 (in), 21 P3 (in), 22 P4 (in), 23 P5 (in), 24 P6 (in), 25 P7 (in), 26 PLE (in), 27 ~{CLQ} (in), 28 VCC (power) hidden to VCC

## 74AS867
designator U?
footprint DIP-24
pins: 1 S0 (in), 2 S1 (in), 3 A (in), 4 B (in), 5 C (in), 6 D (in), 7 E (in), 8 F (in), 9 G (in), 10 H (in), 11 ~{ENT} (in), 12 GND (power) hidden to GND, 13 ~{RCO} (out), 14 CLK (in), 15 QH (out), 16 QG (out), 17 QF (out), 18 QE (out), 19 QD (out), 20 QC (out), 21 QB (out), 22 QA (out), 23 ~{ENP} (in), 24 VCC (power) hidden to VCC

## 74AS874
designator U?
footprint DIP-24
part A pins: 1 ~{CLR} (in), 2 ~{OC} (in), 3 D1 (in), 4 D2 (in), 5 D3 (in), 6 D4 (in), 12 GND (power) hidden to GND, 19 Q4 (out), 20 Q3 (out), 21 Q2 (out), 22 Q1 (out), 23 CLK (in), 24 VCC (power) hidden to VCC
part B pins: 7 D1 (in), 8 D2 (in), 9 D3 (in), 10 D4 (in), 11 ~{OC} (in), 12 GND (power) hidden to GND, 13 ~{CLR} (in), 14 CLK (in), 15 Q4 (out), 16 Q3 (out), 17 Q2 (out), 18 Q1 (out), 24 VCC (power) hidden to VCC

## 74AS877
designator U?
footprint DIP-24
pins: 1 S0 (in), 2 S1 (in), 3 S2 (in), 4 A1 (in), 5 A2 (in), 6 A3 (in), 7 A4 (in), 8 A5 (in), 9 A6 (in), 10 A7 (in), 11 A8 (in), 12 GND (power) hidden to GND, 13 Q8 (out), 14 B8 (out), 15 B7 (out), 16 B6 (out), 17 B5 (out), 18 B4 (out), 19 B3 (out), 20 B2 (out), 21 B1 (out), 22 SERIN (in), 23 CLK (in), 24 VCC (power) hidden to VCC

## 74AS882
designator U?
footprint DIP-24
pins: 1 Cn (in), 2 ~{G}0 (in), 3 ~{P}0 (in), 4 ~{G}1 (in), 5 ~{P}1 (in), 6 Cn+8 (out), 7 ~{G}2 (in), 8 ~{P}2 (in), 9 ~{G}3 (in), 10 ~{P}3 (in), 11 Cn+16 (out), 12 GND (power) hidden to GND, 13 ~{G}4 (in), 14 ~{P}4 (in), 15 ~{G}5 (in), 16 ~{P}5 (in), 17 Cn+24 (out), 18 ~{G}6 (in), 19 ~{P}6 (in), 20 ~{G}7 (in), 21 ~{P}7 (in), 22 Cn+32 (out), 24 VCC (power) hidden to VCC

## 74AS885
designator U?
footprint DIP-24
pins: 1 L/~{A} (in), 2 P<Qin (in), 3 P>Qin (in), 4 Q7 (in), 5 Q6 (in), 6 Q5 (in), 7 Q4 (in), 8 Q3 (in), 9 Q2 (in), 10 Q1 (in), 11 Q0 (in), 12 GND (power) hidden to GND, 13 P>Qout (out), 14 P<Qout (out), 15 P0 (in), 16 P1 (in), 17 P2 (in), 18 P3 (in), 19 P4 (in), 20 P5 (in), 21 P6 (in), 22 P7 (in), 23 PLE (in), 24 VCC (power) hidden to VCC

## 74F151
designator U?
footprint DIP-16
pins: 1 I3 (in), 2 I2 (in), 3 I1 (in), 4 I0 (in), 5 Z (out), 6 ~{Z} (out), 7 ~{E} (in), 8 GND (power) hidden to GND, 9 C (in), 10 B (in), 11 A (in), 12 I7 (in), 13 I6 (in), 14 I5 (in), 15 I4 (in), 16 VCC (power) hidden to VCC

## 74F164
designator U?
footprint DIP-14
pins: 1 A (in), 2 B (in), 3 Q0 (out), 4 Q1 (out), 5 Q2 (out), 6 Q3 (out), 7 GND (power) hidden to GND, 8 CLK (in), 9 ~{MR} (in), 10 Q4 (out), 11 Q5 (out), 12 Q6 (out), 13 Q7 (out), 14 VCC (power) hidden to VCC

## 74F240
designator U?
footprint DIP-20
pins: 1 1~{G} (in), 2 1A1 (in), 3 2Y4 (hiz), 4 1A2 (in), 5 2Y3 (hiz), 6 1A3 (in), 7 2Y2 (hiz), 8 1A4 (in), 9 2Y1 (hiz), 10 GND (power) hidden to GND, 11 2A1 (in), 12 1Y4 (hiz), 13 2A2 (in), 14 1Y3 (hiz), 15 2A3 (in), 16 1Y2 (hiz), 17 2A4 (in), 18 1Y1 (hiz), 19 2~{G} (in), 20 VCC (power) hidden to VCC

## 74F260
designator U?
footprint DIP-14
part A pins: 1 (in), 2 (in), 3 (in), 5 (out), 7 GND (power) hidden to GND, 12 (in), 13 (in), 14 VCC (power) hidden to VCC
part B pins: 4 (in), 6 (out), 7 GND (power) hidden to GND, 8 (in), 9 (in), 10 (in), 11 (in), 14 VCC (power) hidden to VCC

## 74F377
designator U?
footprint DIP-20
pins: 1 ~{E} (in), 2 Q0 (out), 3 D0 (in), 4 D1 (in), 5 Q1 (out), 6 Q2 (out), 7 D2 (in), 8 D3 (in), 9 Q3 (out), 10 GND (power) hidden to GND, 11 CLK (in), 12 Q4 (out), 13 D4 (in), 14 D5 (in), 15 Q5 (out), 16 Q6 (out), 17 D6 (in), 18 D7 (in), 19 Q7 (out), 20 VCC (power) hidden to VCC

## 74F381
designator U?
footprint DIP-20
pins: 1 A1 (in), 2 B1 (in), 3 A0 (in), 4 B0 (in), 5 S0 (in), 6 S1 (in), 7 S2 (in), 8 F0 (out), 9 F1 (out), 10 GND (power) hidden to GND, 11 F2 (out), 12 F3 (out), 13 ~{G} (out), 14 ~{P} (out), 15 CN (in), 16 B3 (in), 17 A3 (in), 18 B2 (in), 19 A2 (in), 20 VCC (power) hidden to VCC

## 74F395
designator U?
footprint DIP-16
pins: 1 ~{MR} (in), 2 DS (in), 3 P0 (in), 4 P1 (in), 5 P2 (in), 6 P3 (in), 7 S (in), 8 GND (power) hidden to GND, 9 ~{OE} (in), 10 CLK (in), 11 Q3 (hiz), 12 O3 (hiz), 13 O2 (hiz), 14 O1 (hiz), 15 O0 (hiz), 16 VCC (power) hidden to VCC

## 74F573
designator U?
footprint DIP-20
pins: 1 ~{OC} (in), 2 1D (in), 3 2D (in), 4 3D (in), 5 4D (in), 6 5D (in), 7 6D (in), 8 7D (in), 9 8D (in), 10 GND (power) hidden to GND, 11 C (in), 12 8Q (out), 13 7Q (out), 14 6Q (out), 15 5Q (out), 16 4Q (out), 17 3Q (out), 18 2Q (out), 19 1Q (out), 20 VCC (power) hidden to VCC

## 74F574
designator U?
footprint DIP-20
pins: 1 ~{OC} (in), 2 1D (in), 3 2D (in), 4 3D (in), 5 4D (in), 6 5D (in), 7 6D (in), 8 7D (in), 9 8D (in), 10 GND (power) hidden to GND, 11 CLK (in), 12 8Q (out), 13 7Q (out), 14 6Q (out), 15 5Q (out), 16 4Q (out), 17 3Q (out), 18 2Q (out), 19 1Q (out), 20 VCC (power) hidden to VCC

## 74HC42
designator U?
footprint DIP-16
pins: 1 ~{0} (out), 2 ~{1} (out), 3 ~{2} (out), 4 ~{3} (out), 5 ~{4} (out), 6 ~{5} (out), 7 ~{6} (out), 8 GND (power) hidden to GND, 9 ~{7} (out), 10 ~{8} (out), 11 ~{9} (out), 12 A3 (in), 13 A2 (in), 14 A1 (in), 15 A0 (in), 16 VCC (power) hidden to VCC

## 74HC75
designator U?
footprint DIP-16
pins: 1 ~{Q0} (out), 2 D0 (in), 3 D1 (in), 4 E23 (in), 5 VCC (power) hidden to VCC, 6 D2 (in), 7 D3 (in), 8 ~{Q3} (out), 9 Q3 (out), 10 Q2 (out), 11 ~{Q2} (out), 12 GND (power) hidden to GND, 13 E01 (in), 14 ~{Q1} (out), 15 Q1 (out), 16 Q0 (out)

## 74HC92
designator U?
footprint DIP-14
pins: 1 CLK1 (in), 5 VCC (power) hidden to VCC, 6 MR1 (in), 7 MR2 (in), 8 Q3 (out), 9 Q2 (out), 10 GND (power) hidden to GND, 11 Q1 (out), 12 Q0 (out), 14 CLK0 (in)

## 74HC93
designator U?
footprint DIP-14
pins: 1 CLK1 (in), 2 MR1 (in), 3 MR2 (in), 5 VCC (power) hidden to VCC, 8 Q2 (out), 9 Q1 (out), 10 GND (power) hidden to GND, 11 Q3 (out), 12 Q0 (out), 14 CLK0 (in)

## 74HC151
designator U?
footprint DIP-16
pins: 1 I3 (in), 2 I2 (in), 3 I1 (in), 4 I0 (in), 5 Z (out), 6 ~{Z} (out), 7 ~{E} (in), 8 GND (power) hidden to GND, 9 C (in), 10 B (in), 11 A (in), 12 I7 (in), 13 I6 (in), 14 I5 (in), 15 I4 (in), 16 VCC (power) hidden to VCC

## 74HC164
designator U?
footprint DIP-14
pins: 1 A (in), 2 B (in), 3 Q0 (out), 4 Q1 (out), 5 Q2 (out), 6 Q3 (out), 7 GND (power) hidden to GND, 8 CLK (in), 9 ~{MR} (in), 10 Q4 (out), 11 Q5 (out), 12 Q6 (out), 13 Q7 (out), 14 VCC (power) hidden to VCC

## 74HC180
designator U?
footprint DIP-14
pins: 1 G (in), 2 H (in), 3 EVEN (in), 4 ODD (in), 5 EVEN (in), 6 ODD (in), 7 GND (power) hidden to GND, 8 A (in), 9 B (in), 10 C (in), 11 D (in), 12 E (in), 13 F (in), 14 VCC (power) hidden to VCC

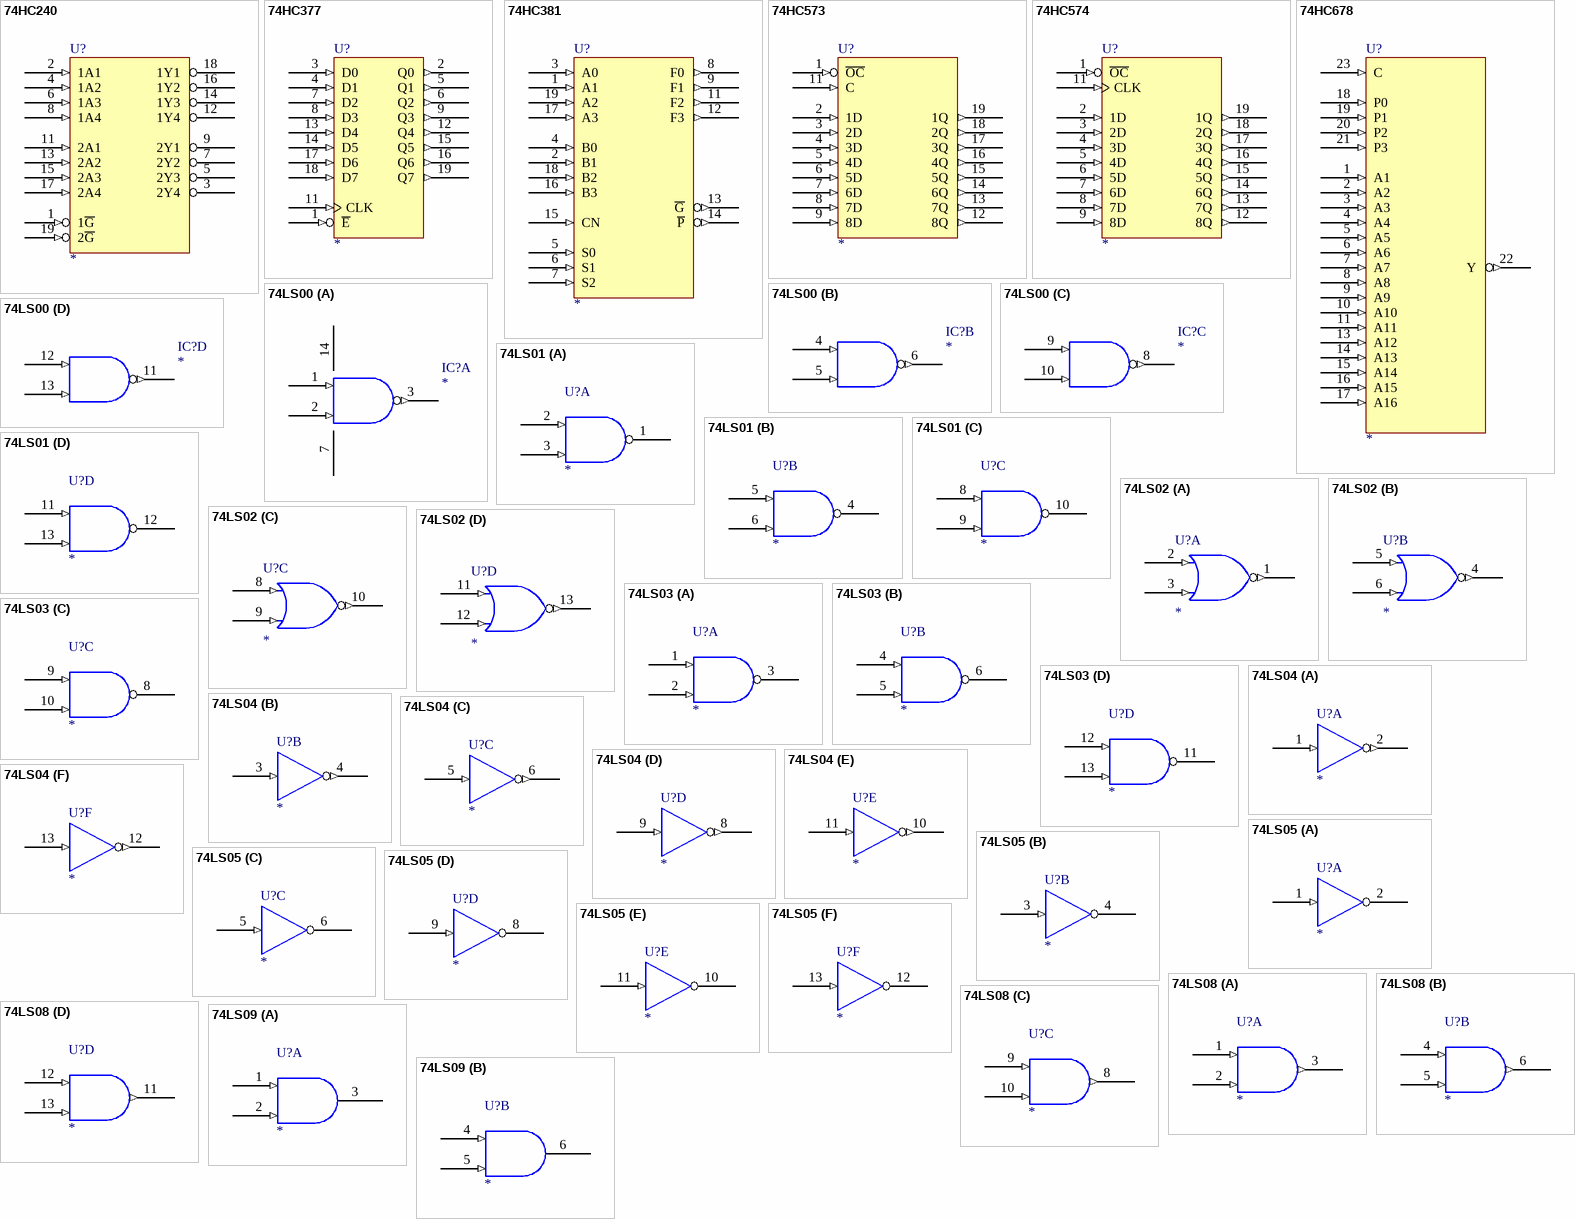
[diagram p4: symbols 74HC240 to 74LS09]

## 74HC240
designator U?
footprint DIP-20
pins: 1 1~{G} (in), 2 1A1 (in), 3 2Y4 (hiz), 4 1A2 (in), 5 2Y3 (hiz), 6 1A3 (in), 7 2Y2 (hiz), 8 1A4 (in), 9 2Y1 (hiz), 10 GND (power) hidden to GND, 11 2A1 (in), 12 1Y4 (hiz), 13 2A2 (in), 14 1Y3 (hiz), 15 2A3 (in), 16 1Y2 (hiz), 17 2A4 (in), 18 1Y1 (hiz), 19 2~{G} (in), 20 VCC (power) hidden to VCC

## 74HC377
designator U?
footprint DIP-20
pins: 1 ~{E} (in), 2 Q0 (out), 3 D0 (in), 4 D1 (in), 5 Q1 (out), 6 Q2 (out), 7 D2 (in), 8 D3 (in), 9 Q3 (out), 11 CLK (in), 11 GND (power) hidden to GND, 12 Q4 (out), 13 D4 (in), 14 D5 (in), 15 Q5 (out), 16 Q6 (out), 17 D6 (in), 18 D7 (in), 19 Q7 (out), 20 VCC (power) hidden to VCC

## 74HC381
designator U?
footprint DIP-20
pins: 1 A1 (in), 2 B1 (in), 3 A0 (in), 4 B0 (in), 5 S0 (in), 6 S1 (in), 7 S2 (in), 8 F0 (out), 9 F1 (out), 10 GND (power) hidden to GND, 11 F2 (out), 12 F3 (out), 13 ~{G} (out), 14 ~{P} (out), 15 CN (in), 16 B3 (in), 17 A3 (in), 18 B2 (in), 19 A2 (in), 20 VCC (power) hidden to VCC

## 74HC573
designator U?
footprint DIP-20
pins: 1 ~{OC} (in), 2 1D (in), 3 2D (in), 4 3D (in), 5 4D (in), 6 5D (in), 7 6D (in), 8 7D (in), 9 8D (in), 10 GND (power) hidden to GND, 11 C (in), 12 8Q (out), 13 7Q (out), 14 6Q (out), 15 5Q (out), 16 4Q (out), 17 3Q (out), 18 2Q (out), 19 1Q (out), 20 VCC (power) hidden to VCC

## 74HC574
designator U?
footprint DIP-20
pins: 1 ~{OC} (in), 2 1D (in), 3 2D (in), 4 3D (in), 5 4D (in), 6 5D (in), 7 6D (in), 8 7D (in), 9 8D (in), 10 GND (power) hidden to GND, 11 CLK (in), 12 8Q (out), 13 7Q (out), 14 6Q (out), 15 5Q (out), 16 4Q (out), 17 3Q (out), 18 2Q (out), 19 1Q (out), 20 VCC (power) hidden to VCC

## 74HC678
designator U?
footprint DIP-24
pins: 1 A1 (in), 2 A2 (in), 3 A3 (in), 4 A4 (in), 5 A5 (in), 6 A6 (in), 7 A7 (in), 8 A8 (in), 9 A9 (in), 10 A10 (in), 11 A11 (in), 12 GND (power) hidden to GND, 13 A12 (in), 14 A13 (in), 15 A14 (in), 16 A15 (in), 17 A16 (in), 18 P0 (in), 19 P1 (in), 20 P2 (in), 21 P3 (in), 22 Y (out), 23 C (in), 24 VCC (power) hidden to VCC

## 74LS00
designator IC?
footprint DIP-14
part A pins: 1 (in), 2 (in), 3 (out), 7 GND (power), 14 VCC (power)
part B pins: 4 (in), 5 (in), 6 (out), 7 GND (power) hidden to GND, 14 VCC (power) hidden to VCC
part C pins: 7 GND (power) hidden to GND, 8 (out), 9 (in), 10 (in), 14 VCC (power) hidden to VCC
part D pins: 7 GND (power) hidden to GND, 11 (out), 12 (in), 13 (in), 14 VCC (power) hidden to VCC

## 74LS01
designator U?
footprint DIP-14
part A pins: 1 (oc), 2 (in), 3 (in), 7 GND (power) hidden to GND, 14 VCC (power) hidden to VCC
part B pins: 4 (oc), 5 (in), 6 (in), 7 GND (power) hidden to GND, 14 VCC (power) hidden to VCC
part C pins: 7 GND (power) hidden to GND, 8 (in), 9 (in), 10 (oc), 14 VCC (power) hidden to VCC
part D pins: 7 GND (power) hidden to GND, 11 (in), 12 (oc), 13 (in), 14 VCC (power) hidden to VCC

## 74LS02
designator U?
footprint DIP-14
part A pins: 1 (out), 2 (in), 3 (in), 7 GND (power) hidden to GND, 14 VCC (power) hidden to VCC
part B pins: 4 (out), 5 (in), 6 (in), 7 GND (power) hidden to GND, 14 VCC (power) hidden to VCC
part C pins: 7 GND (power) hidden to GND, 8 (in), 9 (in), 10 (out), 14 VCC (power) hidden to VCC
part D pins: 7 GND (power) hidden to GND, 11 (in), 12 (in), 13 (out), 14 VCC (power) hidden to VCC

## 74LS03
designator U?
footprint DIP-14
part A pins: 1 (in), 2 (in), 3 (oc), 7 GND (power) hidden to GND, 14 VCC (power) hidden to VCC
part B pins: 4 (in), 5 (in), 6 (oc), 7 GND (power) hidden to GND, 14 VCC (power) hidden to VCC
part C pins: 7 GND (power) hidden to GND, 8 (oc), 9 (in), 10 (in), 14 VCC (power) hidden to VCC
part D pins: 7 GND (power) hidden to GND, 11 (oc), 12 (in), 13 (in), 14 VCC (power) hidden to VCC

## 74LS04
designator U?
footprint DIP-14
part A pins: 1 (in), 2 (out), 7 GND (power) hidden to GND, 14 VCC (power) hidden to VCC
part B pins: 3 (in), 4 (out), 7 GND (power) hidden to GND, 14 VCC (power) hidden to VCC
part C pins: 5 (in), 6 (out), 7 GND (power) hidden to GND, 14 VCC (power) hidden to VCC
part D pins: 7 GND (power) hidden to GND, 8 (out), 9 (in), 14 VCC (power) hidden to VCC
part E pins: 7 GND (power) hidden to GND, 10 (out), 11 (in), 14 VCC (power) hidden to VCC
part F pins: 7 GND (power) hidden to GND, 12 (out), 13 (in), 14 VCC (power) hidden to VCC

## 74LS05
designator U?
footprint DIP-14
part A pins: 1 (in), 2 (oc), 7 GND (power) hidden to GND, 14 VCC (power) hidden to VCC
part B pins: 3 (in), 4 (oc), 7 GND (power) hidden to GND, 14 VCC (power) hidden to VCC
part C pins: 5 (in), 6 (oc), 7 GND (power) hidden to GND, 14 VCC (power) hidden to VCC
part D pins: 7 GND (power) hidden to GND, 8 (oc), 9 (in), 14 VCC (power) hidden to VCC
part E pins: 7 GND (power) hidden to GND, 10 (oc), 11 (in), 14 VCC (power) hidden to VCC
part F pins: 7 GND (power) hidden to GND, 12 (oc), 13 (in), 14 VCC (power) hidden to VCC

## 74LS08
designator U?
footprint DIP-14
part A pins: 1 (in), 2 (in), 3 (out), 7 GND (power) hidden to GND, 14 VCC (power) hidden to VCC
part B pins: 4 (in), 5 (in), 6 (out), 7 GND (power) hidden to GND, 14 VCC (power) hidden to VCC
part C pins: 7 GND (power) hidden to GND, 8 (out), 9 (in), 10 (in), 14 VCC (power) hidden to VCC
part D pins: 7 GND (power) hidden to GND, 11 (out), 12 (in), 13 (in), 14 VCC (power) hidden to VCC

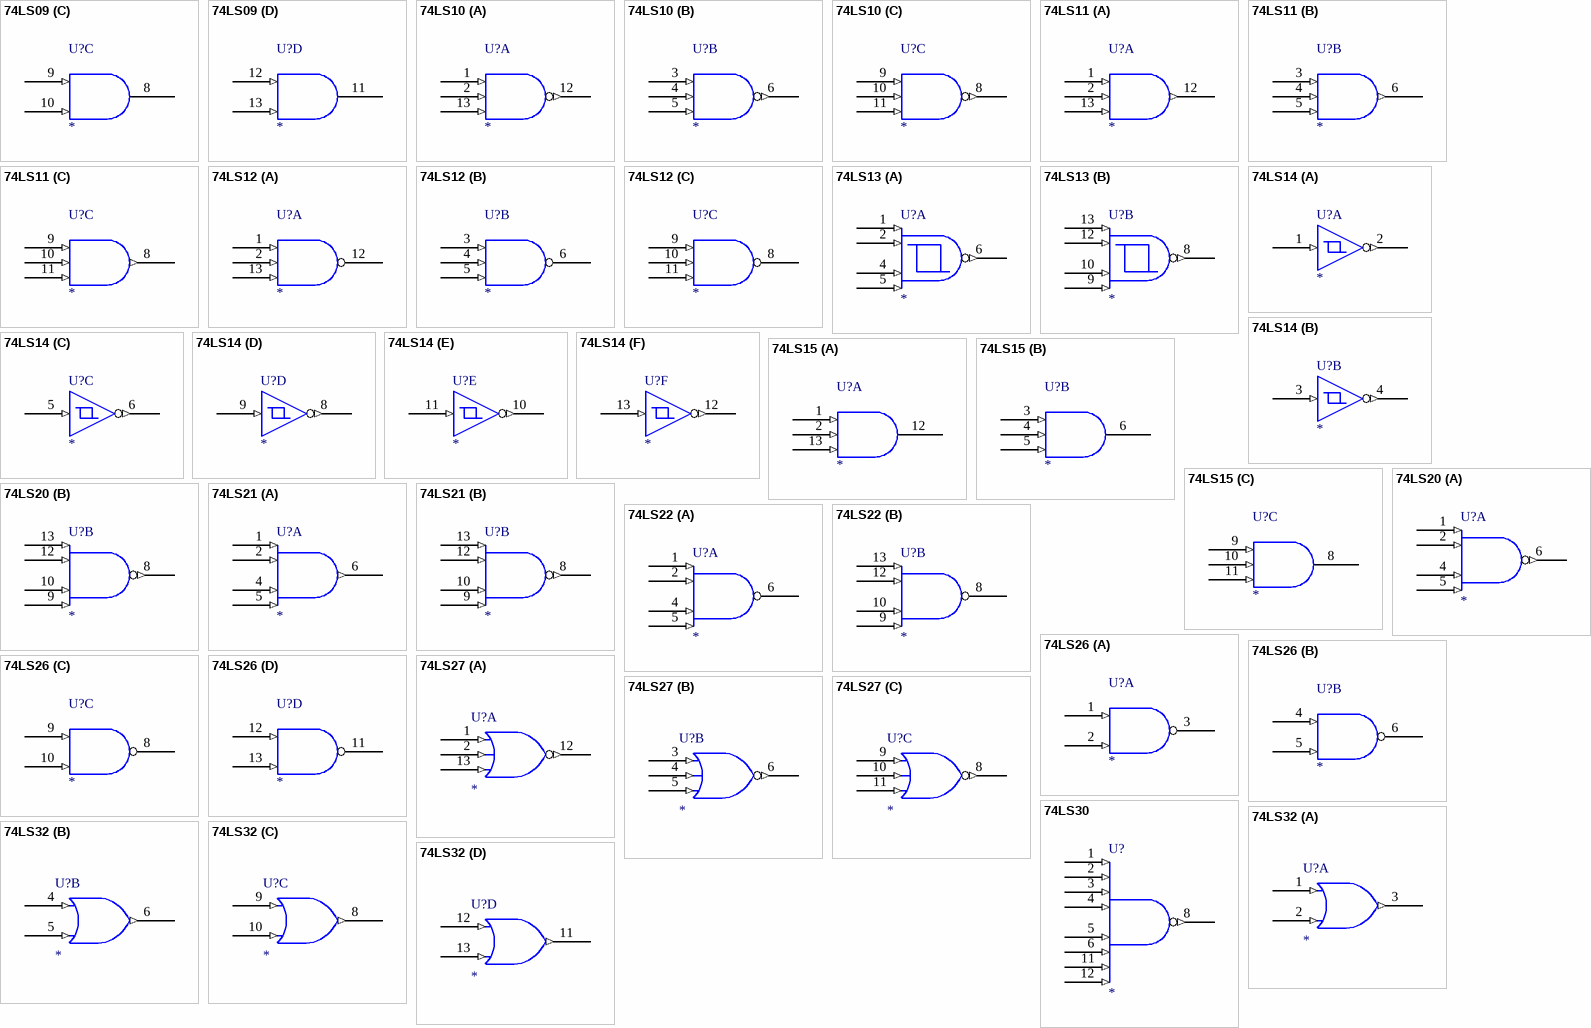
[diagram p5: symbols 74LS09 to 74LS32]

## 74LS09
designator U?
footprint DIP-14
part A pins: 1 (in), 2 (in), 3 (oc), 7 GND (power) hidden to GND, 14 VCC (power) hidden to VCC
part B pins: 4 (in), 5 (in), 6 (oc), 7 GND (power) hidden to GND, 14 VCC (power) hidden to VCC
part C pins: 7 GND (power) hidden to GND, 8 (oc), 9 (in), 10 (in), 14 VCC (power) hidden to VCC
part D pins: 7 GND (power) hidden to GND, 11 (oc), 12 (in), 13 (in), 14 VCC (power) hidden to VCC

## 74LS10
designator U?
footprint DIP-14
part A pins: 1 (in), 2 (in), 7 GND (power) hidden to GND, 12 (out), 13 (in), 14 VCC (power) hidden to VCC
part B pins: 3 (in), 4 (in), 5 (in), 6 (out), 7 GND (power) hidden to GND, 14 VCC (power) hidden to VCC
part C pins: 7 GND (power) hidden to GND, 8 (out), 9 (in), 10 (in), 11 (in), 14 VCC (power) hidden to VCC

## 74LS11
designator U?
footprint DIP-14
part A pins: 1 (in), 2 (in), 7 GND (power) hidden to GND, 12 (out), 13 (in), 14 VCC (power) hidden to VCC
part B pins: 3 (in), 4 (in), 5 (in), 6 (out), 7 GND (power) hidden to GND, 14 VCC (power) hidden to VCC
part C pins: 7 GND (power) hidden to GND, 8 (out), 9 (in), 10 (in), 11 (in), 14 VCC (power) hidden to VCC

## 74LS12
designator U?
footprint DIP-14
part A pins: 1 (in), 2 (in), 7 GND (power) hidden to GND, 12 (oc), 13 (in), 14 VCC (power) hidden to VCC
part B pins: 3 (in), 4 (in), 5 (in), 6 (oc), 7 GND (power) hidden to GND, 14 VCC (power) hidden to VCC
part C pins: 7 GND (power) hidden to GND, 8 (oc), 9 (in), 10 (in), 11 (in), 14 VCC (power) hidden to VCC

## 74LS13
designator U?
footprint DIP-14
part A pins: 1 (in), 2 (in), 4 (in), 5 (in), 6 (out), 7 GND (power) hidden to GND, 14 VCC (power) hidden to VCC
part B pins: 7 GND (power) hidden to GND, 8 (out), 9 (in), 10 (in), 12 (in), 13 (in), 14 VCC (power) hidden to VCC

## 74LS14
designator U?
footprint DIP-14
part A pins: 1 (in), 2 (out), 7 GND (power) hidden to GND, 14 VCC (power) hidden to VCC
part B pins: 3 (in), 4 (out), 7 GND (power) hidden to GND, 14 VCC (power) hidden to VCC
part C pins: 5 (in), 6 (out), 7 GND (power) hidden to GND, 14 VCC (power) hidden to VCC
part D pins: 7 GND (power) hidden to GND, 8 (out), 9 (in), 14 VCC (power) hidden to VCC
part E pins: 7 GND (power) hidden to GND, 10 (out), 11 (in), 14 VCC (power) hidden to VCC
part F pins: 7 GND (power) hidden to GND, 12 (out), 13 (in), 14 VCC (power) hidden to VCC

## 74LS15
designator U?
footprint DIP-14
part A pins: 1 (in), 2 (in), 7 GND (power) hidden to GND, 12 (oc), 13 (in), 14 VCC (power) hidden to VCC
part B pins: 3 (in), 4 (in), 5 (in), 6 (oc), 7 GND (power) hidden to GND, 14 VCC (power) hidden to VCC
part C pins: 7 GND (power) hidden to GND, 8 (oc), 9 (in), 10 (in), 11 (in), 14 VCC (power) hidden to VCC

## 74LS20
designator U?
footprint DIP-14
part A pins: 1 (in), 2 (in), 4 (in), 5 (in), 6 (out), 7 GND (power) hidden to GND, 14 VCC (power) hidden to VCC
part B pins: 7 GND (power) hidden to GND, 8 (out), 9 (in), 10 (in), 12 (in), 13 (in), 14 VCC (power) hidden to VCC

## 74LS21
designator U?
footprint DIP-14
part A pins: 1 (in), 2 (in), 4 (in), 5 (in), 6 (out), 7 GND (power) hidden to GND, 14 VCC (power) hidden to VCC
part B pins: 7 GND (power) hidden to GND, 8 (out), 9 (in), 10 (in), 12 (in), 13 (in), 14 VCC (power) hidden to VCC

## 74LS22
designator U?
footprint DIP-14
part A pins: 1 (in), 2 (in), 4 (in), 5 (in), 6 (oc), 7 GND (power) hidden to GND, 14 VCC (power) hidden to VCC
part B pins: 7 GND (power) hidden to GND, 8 (oc), 9 (in), 10 (in), 12 (in), 13 (in), 14 VCC (power) hidden to VCC

## 74LS26
designator U?
footprint DIP-14
part A pins: 1 (in), 2 (in), 3 (oc), 7 GND (power) hidden to GND, 14 VCC (power) hidden to VCC
part B pins: 4 (in), 5 (in), 6 (oc), 7 GND (power) hidden to GND, 14 VCC (power) hidden to VCC
part C pins: 7 GND (power) hidden to GND, 8 (oc), 9 (in), 10 (in), 14 VCC (power) hidden to VCC
part D pins: 7 GND (power) hidden to GND, 11 (oc), 12 (in), 13 (in), 14 VCC (power) hidden to VCC

## 74LS27
designator U?
footprint DIP-14
part A pins: 1 (in), 2 (in), 7 GND (power) hidden to GND, 12 (out), 13 (in), 14 VCC (power) hidden to VCC
part B pins: 3 (in), 4 (in), 5 (in), 6 (out), 7 GND (power) hidden to GND, 14 VCC (power) hidden to VCC
part C pins: 7 GND (power) hidden to GND, 8 (out), 9 (in), 10 (in), 11 (in), 14 VCC (power) hidden to VCC

## 74LS30
designator U?
footprint DIP-14
pins: 1 (in), 2 (in), 3 (in), 4 (in), 5 (in), 6 (in), 7 GND (power) hidden to GND, 8 (out), 11 (in), 12 (in), 14 VCC (power) hidden to VCC

## 74LS32
designator U?
footprint DIP-14
part A pins: 1 (in), 2 (in), 3 (out), 7 GND (power) hidden to GND, 14 VCC (power) hidden to VCC
part B pins: 4 (in), 5 (in), 6 (out), 7 GND (power) hidden to GND, 14 VCC (power) hidden to VCC
part C pins: 7 GND (power) hidden to GND, 8 (out), 9 (in), 10 (in), 14 VCC (power) hidden to VCC
part D pins: 7 GND (power) hidden to GND, 11 (out), 12 (in), 13 (in), 14 VCC (power) hidden to VCC

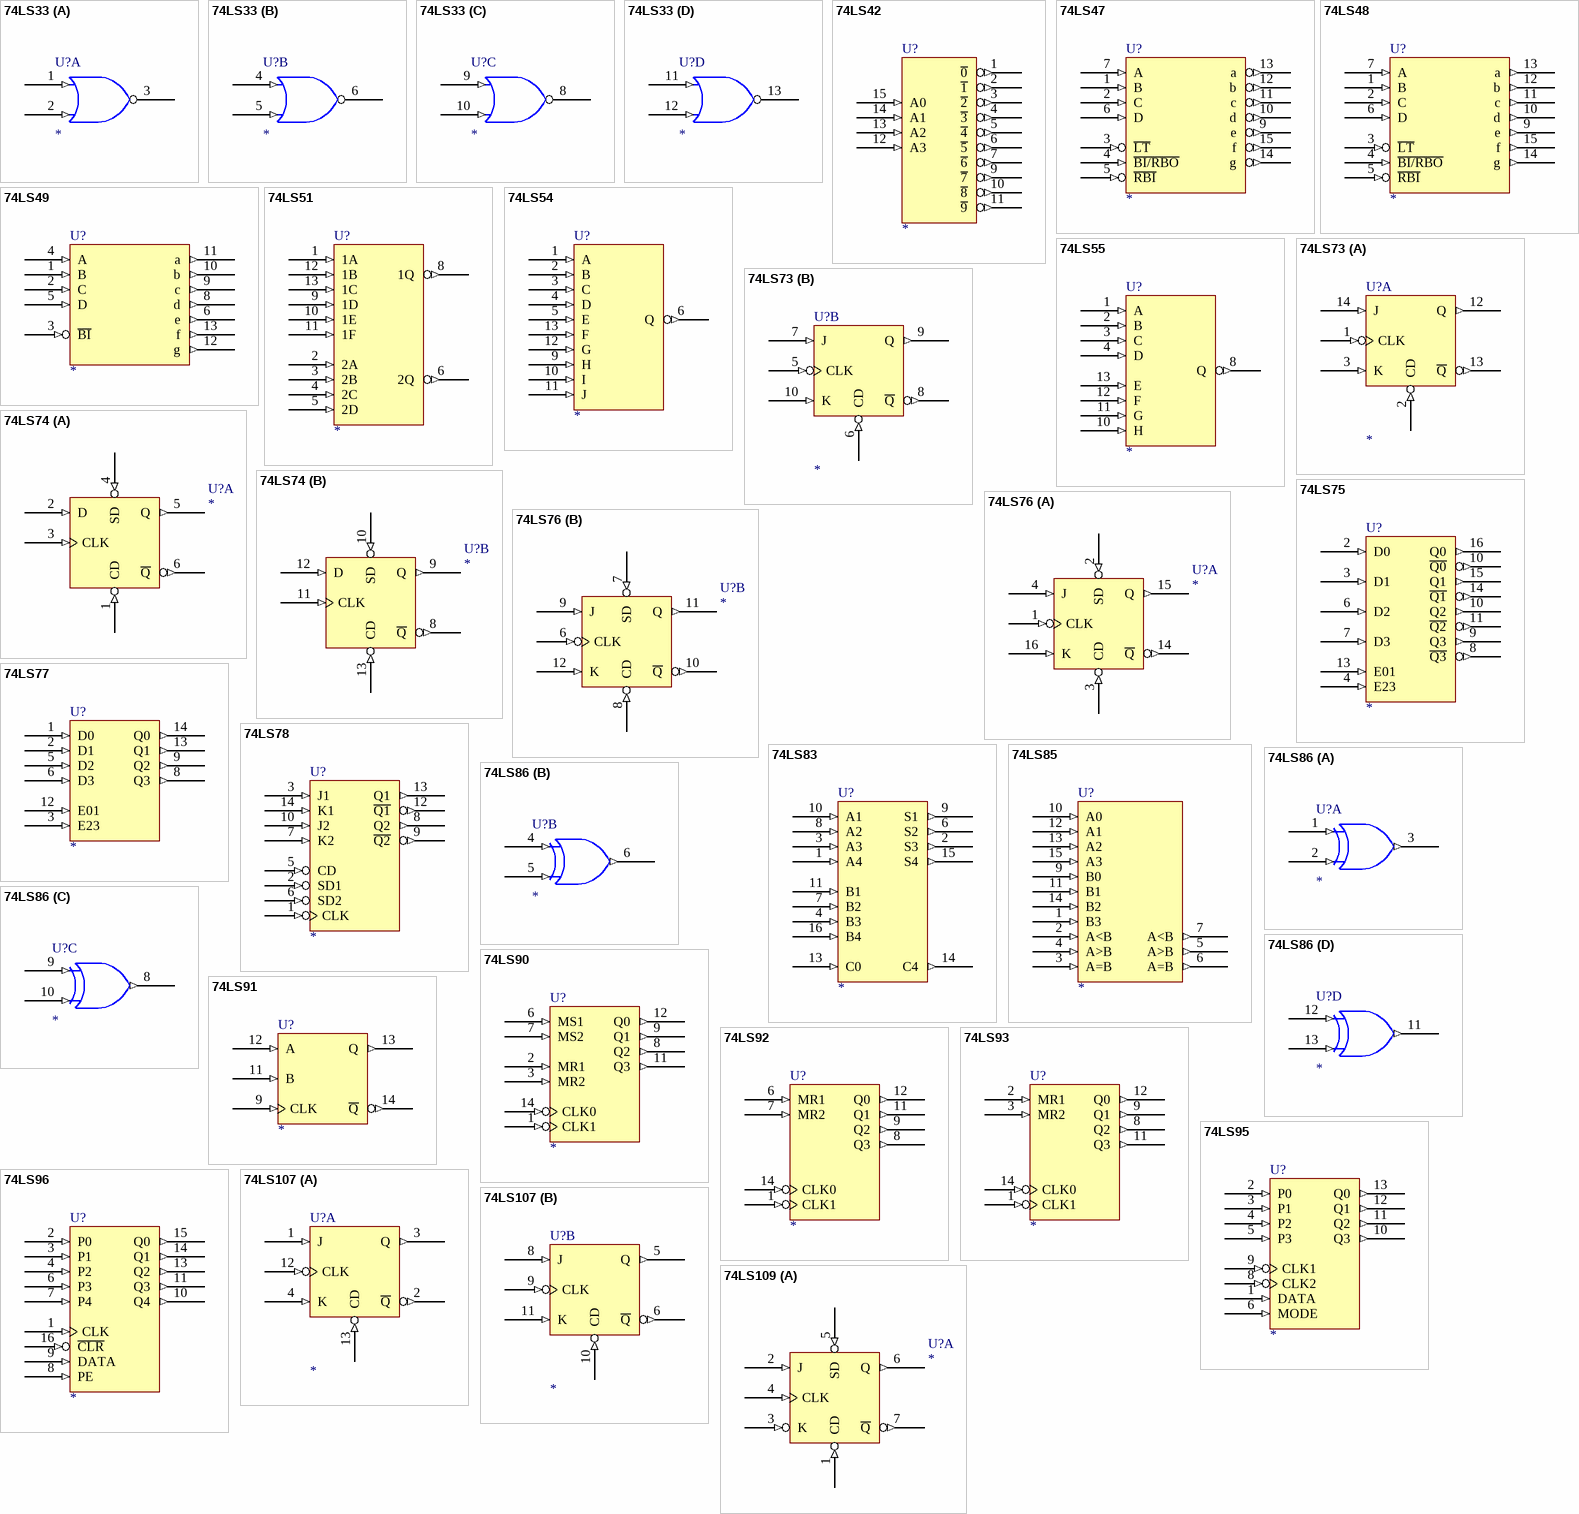
[diagram p6: symbols 74LS33 to 74LS109]

## 74LS33
designator U?
footprint DIP-14
part A pins: 1 (in), 2 (in), 3 (oc), 7 GND (power) hidden to GND, 14 VCC (power) hidden to VCC
part B pins: 4 (in), 5 (in), 6 (oc), 7 GND (power) hidden to GND, 14 VCC (power) hidden to VCC
part C pins: 7 GND (power) hidden to GND, 8 (oc), 9 (in), 10 (in), 14 VCC (power) hidden to VCC
part D pins: 7 GND (power) hidden to GND, 11 (in), 12 (in), 13 (oc), 14 VCC (power) hidden to VCC

## 74LS42
designator U?
footprint DIP-14
pins: 1 ~{0} (out), 2 ~{1} (out), 3 ~{2} (out), 4 ~{3} (out), 5 ~{4} (out), 6 ~{5} (out), 7 ~{6} (out), 8 GND (power) hidden to GND, 9 ~{7} (out), 10 ~{8} (out), 11 ~{9} (out), 12 A3 (in), 13 A2 (in), 14 A1 (in), 15 A0 (in), 16 VCC (power) hidden to VCC

## 74LS47
designator U?
footprint DIP-14
pins: 1 B (in), 2 C (in), 3 ~{LT} (in), 4 ~{BI/RBO} (in), 5 ~{RBI} (in), 6 D (in), 7 A (in), 8 GND (power) hidden to GND, 9 e (out), 10 d (out), 11 c (out), 12 b (out), 13 a (out), 14 g (out), 15 f (out), 16 VCC (power) hidden to VCC

## 74LS48
designator U?
footprint DIP-14
pins: 1 B (in), 2 C (in), 3 ~{LT} (in), 4 ~{BI/RBO} (in), 5 ~{RBI} (in), 6 D (in), 7 A (in), 8 GND (power) hidden to GND, 9 e (out), 10 d (out), 11 c (out), 12 b (out), 13 a (out), 14 g (out), 15 f (out), 16 VCC (power) hidden to VCC

## 74LS49
designator U?
footprint DIP-14
pins: 1 B (in), 2 C (in), 3 ~{BI} (in), 4 A (in), 5 D (in), 6 e (out), 7 GND (power) hidden to GND, 8 d (out), 9 c (out), 10 b (out), 11 a (out), 12 g (out), 13 f (out), 14 VCC (power) hidden to VCC

## 74LS51
designator U?
footprint DIP-14
pins: 1 1A (in), 2 2A (in), 3 2B (in), 4 2C (in), 5 2D (in), 6 2Q (out), 7 GND (power) hidden to GND, 8 1Q (out), 9 1D (in), 10 1E (in), 11 1F (in), 12 1B (in), 13 1C (in), 14 VCC (power) hidden to VCC

## 74LS54
designator U?
footprint DIP-14
pins: 1 A (in), 2 B (in), 3 C (in), 4 D (in), 5 E (in), 6 Q (out), 7 GND (power) hidden to GND, 9 H (in), 10 I (in), 11 J (in), 12 G (in), 13 F (in), 14 VCC (power) hidden to VCC

## 74LS55
designator U?
footprint DIP-14
pins: 1 A (in), 2 B (in), 3 C (in), 4 D (in), 7 GND (power) hidden to GND, 8 Q (out), 10 H (in), 11 G (in), 12 F (in), 13 E (in), 14 VCC (power) hidden to VCC

## 74LS73
designator U?
footprint DIP-14
part A pins: 1 CLK (in), 2 CD (in), 3 K (in), 4 VCC (power) hidden to VCC, 11 GND (power) hidden to GND, 12 Q (out), 13 ~{Q} (out), 14 J (in)
part B pins: 4 VCC (power) hidden to VCC, 5 CLK (in), 6 CD (in), 7 J (in), 8 ~{Q} (out), 9 Q (out), 10 K (in), 11 GND (power) hidden to GND

## 74LS74
designator U?
footprint DIP-14
part A pins: 1 CD (in), 2 D (in), 3 CLK (in), 4 SD (in), 5 Q (out), 6 ~{Q} (out), 7 GND (power) hidden to GND, 14 VCC (power) hidden to VCC
part B pins: 7 GND (power) hidden to GND, 8 ~{Q} (out), 9 Q (out), 10 SD (in), 11 CLK (in), 12 D (in), 13 CD (in), 14 VCC (power) hidden to VCC

## 74LS75
designator U?
footprint DIP-16
pins: 2 D0 (in), 3 D1 (in), 4 E23 (in), 5 VCC (power) hidden to VCC, 6 D2 (in), 7 D3 (in), 8 ~{Q3} (out), 9 Q3 (out), 10 Q2 (out), 10 ~{Q0} (out), 11 ~{Q2} (out), 12 GND (power) hidden to GND, 13 E01 (in), 14 ~{Q1} (out), 15 Q1 (out), 16 Q0 (out)

## 74LS76
designator U?
footprint DIP-16
part A pins: 1 CLK (in), 2 SD (in), 3 CD (in), 4 J (in), 5 VCC (power) hidden to VCC, 13 GND (power) hidden to GND, 14 ~{Q} (out), 15 Q (out), 16 K (in)
part B pins: 5 VCC (power) hidden to VCC, 6 CLK (in), 7 SD (in), 8 CD (in), 9 J (in), 10 ~{Q} (out), 11 Q (out), 12 K (in), 13 GND (power) hidden to GND

## 74LS77
designator U?
footprint DIP-14
pins: 1 D0 (in), 2 D1 (in), 3 E23 (in), 4 VCC (power) hidden to VCC, 5 D2 (in), 6 D3 (in), 8 Q3 (out), 9 Q2 (out), 11 GND (power) hidden to GND, 12 E01 (in), 13 Q1 (out), 14 Q0 (out)

## 74LS78
designator U?
footprint DIP-14
pins: 1 CLK (in), 2 SD1 (in), 3 J1 (in), 4 VCC (power) hidden to VCC, 5 CD (in), 6 SD2 (in), 7 K2 (in), 8 Q2 (out), 9 ~{Q2} (out), 10 J2 (in), 11 GND (power) hidden to GND, 12 ~{Q1} (out), 13 Q1 (out), 14 K1 (in)

## 74LS83
designator U?
footprint DIP-16
pins: 1 A4 (in), 2 S3 (out), 3 A3 (in), 4 B3 (in), 5 VCC (power) hidden to VCC, 6 S2 (out), 7 B2 (in), 8 A2 (in), 9 S1 (out), 10 A1 (in), 11 B1 (in), 12 GND (power) hidden to GND, 13 C0 (in), 14 C4 (out), 15 S4 (out), 16 B4 (in)

## 74LS85
designator U?
footprint DIP-16
pins: 1 B3 (in), 2 A<B (in), 3 A=B (in), 4 A>B (in), 5 A>B (out), 6 A=B (out), 7 A<B (out), 8 GND (power) hidden to GND, 9 B0 (in), 10 A0 (in), 11 B1 (in), 12 A1 (in), 13 A2 (in), 14 B2 (in), 15 A3 (in), 16 VCC (power) hidden to VCC

## 74LS86
designator U?
footprint DIP-14
part A pins: 1 (in), 2 (in), 3 (out), 7 GND (power) hidden to GND, 14 VCC (power) hidden to VCC
part B pins: 4 (in), 5 (in), 6 (out), 7 GND (power) hidden to GND, 14 VCC (power) hidden to VCC
part C pins: 7 GND (power) hidden to GND, 8 (out), 9 (in), 10 (in), 14 VCC (power) hidden to VCC
part D pins: 7 GND (power) hidden to GND, 11 (out), 12 (in), 13 (in), 14 VCC (power) hidden to VCC

## 74LS90
designator U?
footprint DIP-14
pins: 1 CLK1 (in), 2 MR1 (in), 3 MR2 (in), 5 VCC (power) hidden to VCC, 6 MS1 (in), 7 MS2 (in), 8 Q2 (out), 9 Q1 (out), 10 GND (power) hidden to GND, 11 Q3 (out), 12 Q0 (out), 14 CLK0 (in)

## 74LS91
designator U?
footprint DIP-14
pins: 5 VCC (power) hidden to VCC, 9 CLK (in), 11 B (in), 11 GND (power) hidden to GND, 12 A (in), 13 Q (out), 14 ~{Q} (out)

## 74LS92
designator U?
footprint DIP-14
pins: 1 CLK1 (in), 5 VCC (power) hidden to VCC, 6 MR1 (in), 7 MR2 (in), 8 Q3 (out), 9 Q2 (out), 11 Q1 (out), 11 GND (power) hidden to GND, 12 Q0 (out), 14 CLK0 (in)

## 74LS93
designator U?
footprint DIP-14
pins: 1 CLK1 (in), 2 MR1 (in), 3 MR2 (in), 5 VCC (power) hidden to VCC, 8 Q2 (out), 9 Q1 (out), 11 Q3 (out), 11 GND (power) hidden to GND, 12 Q0 (out), 14 CLK0 (in)

## 74LS95
designator U?
footprint DIP-14
pins: 1 DATA (in), 2 P0 (in), 3 P1 (in), 4 P2 (in), 5 P3 (in), 6 MODE (in), 8 CLK2 (in), 8 GND (power) hidden to GND, 9 CLK1 (in), 10 Q3 (out), 11 Q2 (out), 12 Q1 (out), 13 Q0 (out), 16 VCC (power) hidden to VCC

## 74LS96
designator U?
footprint DIP-16
pins: 1 CLK (in), 2 P0 (in), 3 P1 (in), 4 P2 (in), 5 VCC (power) hidden to VCC, 6 P3 (in), 7 P4 (in), 8 PE (in), 9 DATA (in), 10 Q4 (out), 11 Q3 (out), 12 GND (power) hidden to GND, 13 Q2 (out), 14 Q1 (out), 15 Q0 (out), 16 ~{CLR} (in)

## 74LS107
designator U?
footprint DIP-14
part A pins: 1 J (in), 2 ~{Q} (out), 3 Q (out), 4 K (in), 7 GND (power) hidden to GND, 12 CLK (in), 13 CD (in), 14 VCC (power) hidden to VCC
part B pins: 5 Q (out), 6 ~{Q} (out), 7 GND (power) hidden to GND, 8 J (in), 9 CLK (in), 10 CD (in), 11 K (in), 14 VCC (power) hidden to VCC

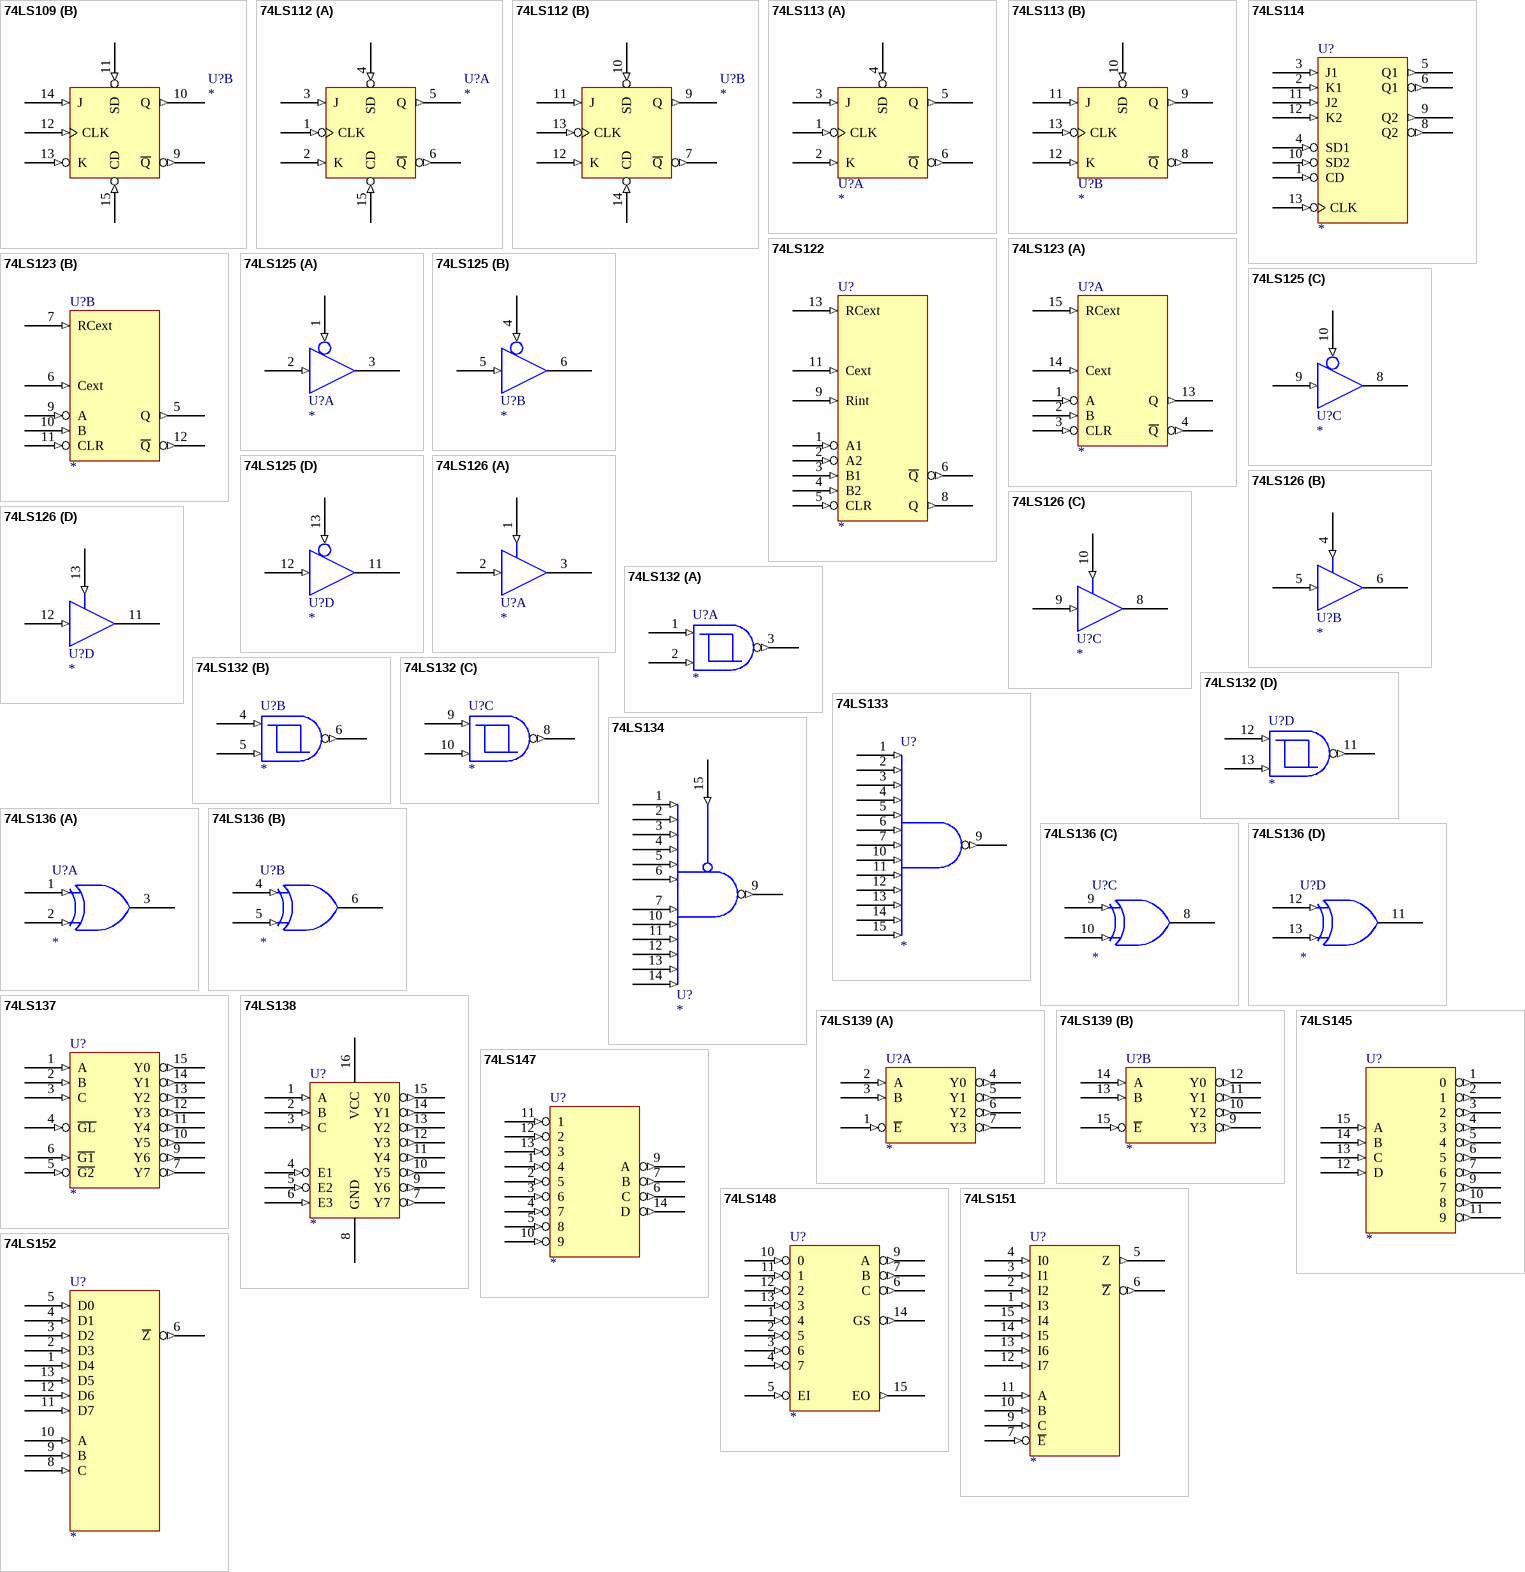
[diagram p7: symbols 74LS109 to 74LS152]